# Altium schematic symbol library Amplifiers.SchLib: 86 symbols (part 1 of 2)
Pins are listed as number, name and electrical type; pins without a type are passive.

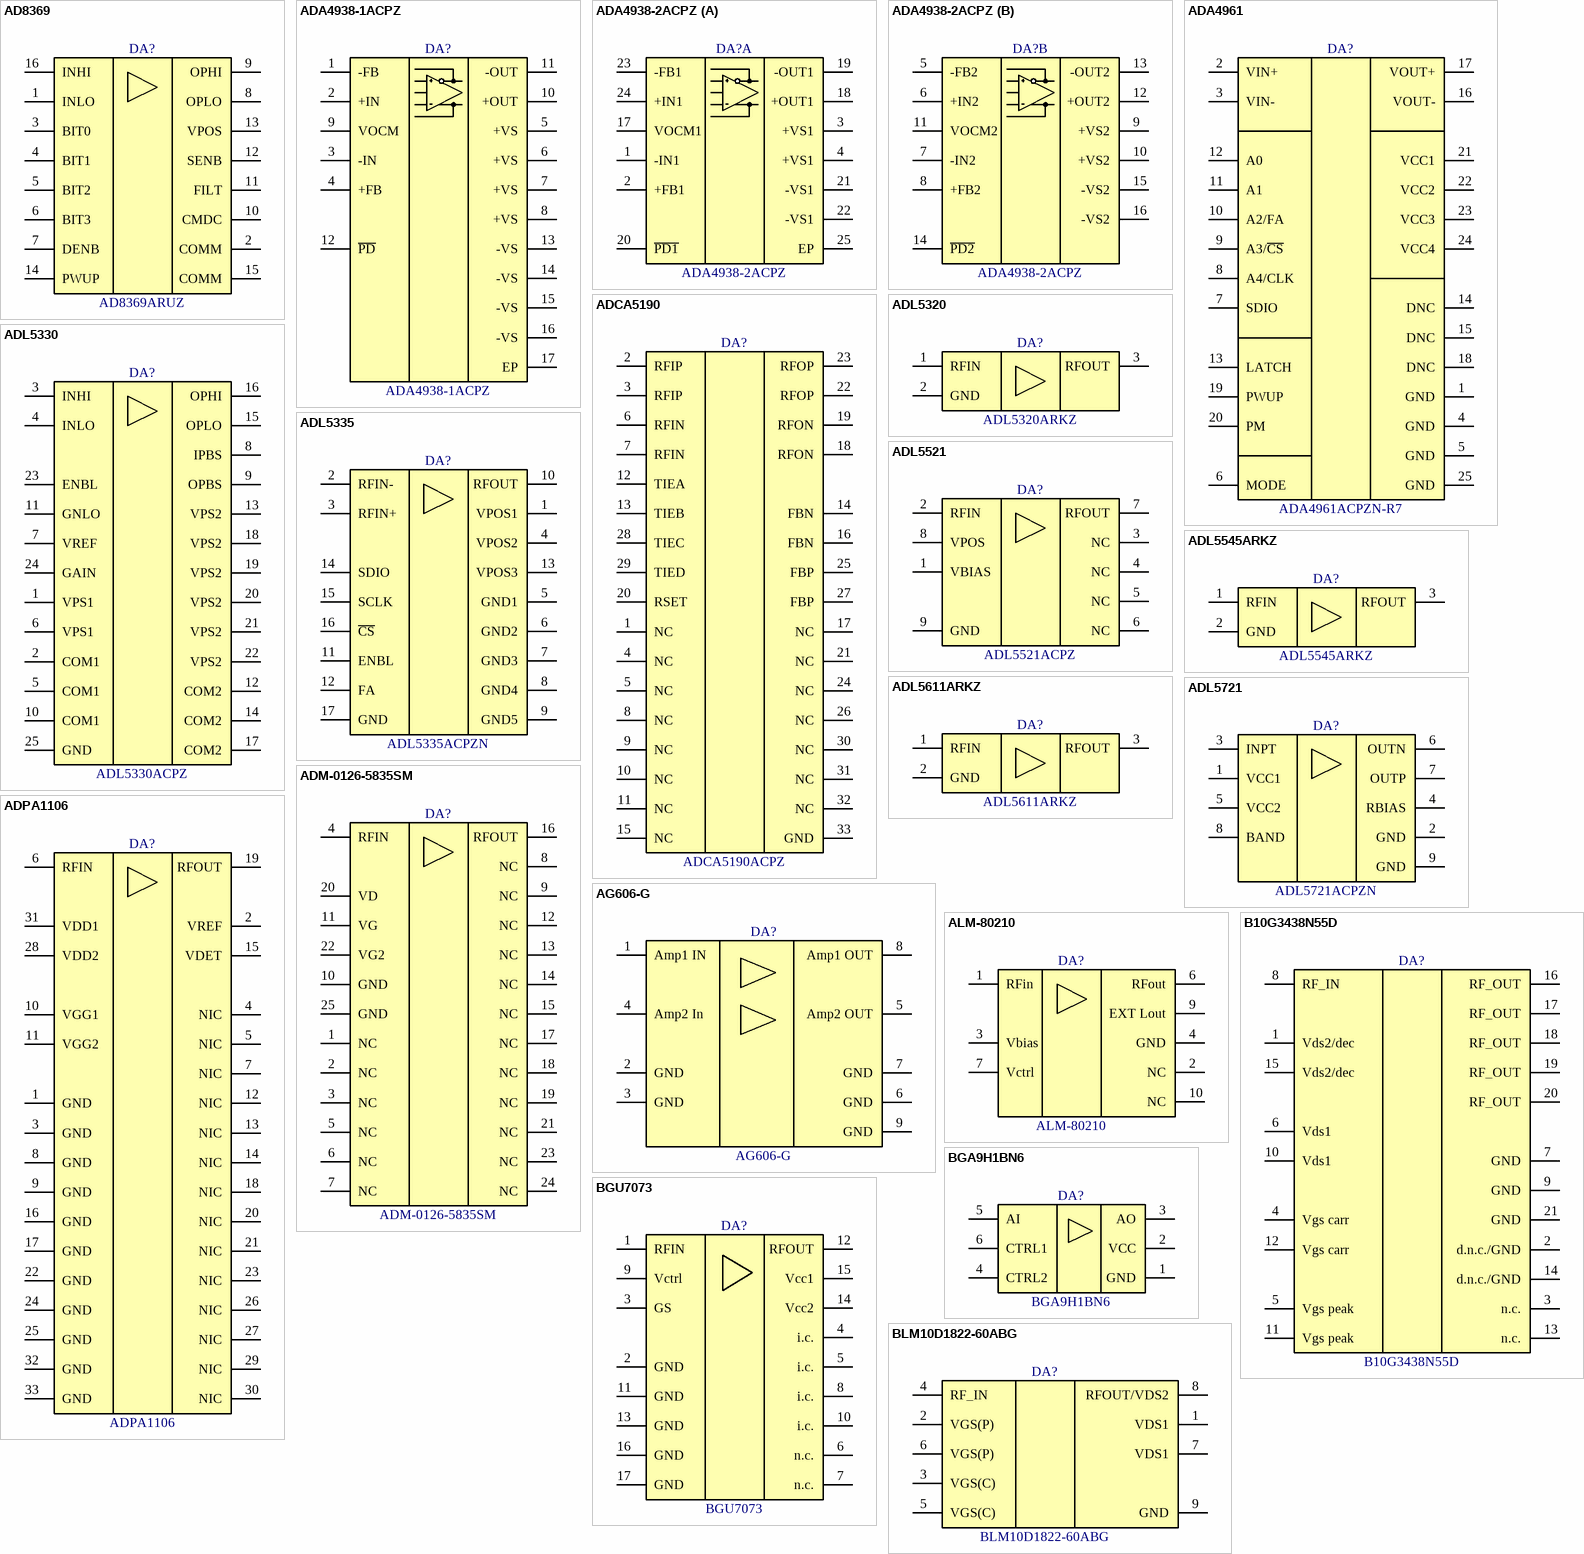
[diagram p0: symbols AD8369 to BLM10D1822-60ABG]

## AD8369
designator DA?, comment AD8369ARUZ
45 dB Digitally Controlled VGA LF to 600 MHz; Manufacturer: Analog Devices; PartNumber: AD8369ARUZ; ComponentLink1Description: Product Page; ComponentLink1URL: https://www.analog.com/en/products/ad8369.html; ComponentLink2Description: DataSheet; ComponentLink2URL: https://www.analog.com/media/en/technical-documentation/data-sheets/AD8369.pdf
footprint SOP16P65_500X640X120L60X24N (Small Outline Pkg (SOP), 0.65 mm pitch; 16 pin, 5.00 mm L X 4.40 mm W X 1.20 mm H body)
pins: 1 INLO, 2 COMM, 3 BIT0, 4 BIT1, 5 BIT2, 6 BIT3, 7 DENB, 8 OPLO, 9 OPHI, 10 CMDC, 11 FILT, 12 SENB, 13 VPOS, 14 PWUP, 15 COMM, 16 INHI

## ADA4938-1ACPZ
designator DA?
Ultralow Distortion Differential ADC Driver, 1 Channel; Manufacturer: Analog Devices; PartNumber: ADA4938-1ACPZ; ComponentLink1Description: Product Page; ComponentLink1URL: https://www.analog.com/en/products/ada4938-1.html; ComponentLink2Description: DataSheet; ComponentLink2URL: https://www.analog.com/media/en/technical-documentation/data-sheets/ADA4938-1_4938-2.pdf
footprint QFN17P50_300X300X80L40X25T145N (Quad Flat No-Lead (QFN with Tab), 0.50 mm pitch; square, 4 pin X 4 pin, 3.00 mm L X 3.00 mm W X 0.80 mm H body)
pins: 1 -FB, 2 +IN, 3 -IN, 4 +FB, 5 +VS, 6 +VS, 7 +VS, 8 +VS, 9 VOCM, 10 +OUT, 11 -OUT, 12 ~{PD}, 13 -VS, 14 -VS, 15 -VS, 16 -VS, 17 EP

## ADA4938-2ACPZ
designator DA?
Ultralow Distortion Differential ADC Driver, 2 Channel; Manufacturer: Analog Devices; PartNumber: ADA4938-2ACPZ; ComponentLink1Description: Product Page; ComponentLink1URL: https://www.analog.com/en/products/ada4938-2.html; ComponentLink2Description: DataSheet; ComponentLink2URL: https://www.analog.com/media/en/technical-documentation/data-sheets/ADA4938-1_4938-2.pdf
footprint QFN25P50_400X400X80L40X25T210N (Quad Flat No-Lead (QFN with Tab), 0.50 mm pitch; square, 6 pin X 6 pin, 4.00 mm L X 4.00 mm W X 0.80 mm H body)
part A pins: 1 -IN1, 2 +FB1, 3 +VS1, 4 +VS1, 17 VOCM1, 18 +OUT1, 19 -OUT1, 20 ~{PD1}, 21 -VS1, 22 -VS1, 23 -FB1, 24 +IN1, 25 EP
part B pins: 5 -FB2, 6 +IN2, 7 -IN2, 8 +FB2, 9 +VS2, 10 +VS2, 11 VOCM2, 12 +OUT2, 13 -OUT2, 14 ~{PD2}, 15 -VS2, 16 -VS2

## ADA4961
designator DA?, comment ADA4961ACPZN-R7
Low Distortion, 3.2 GHz, RF DGA; Manufacturer: Analog Devices; PartNumber: ADA4961ACPZN-R7; ComponentLink1Description: Product Page; ComponentLink1URL: https://www.analog.com/en/products/ada4961.html; ComponentLink2Description: DataSheet; ComponentLink2URL: https://www.analog.com/media/en/technical-documentation/data-sheets/ADA4961.pdf
footprint QFN25P50_400X400X80L40X24T255N (Quad Flat No-Lead (QFN with Tab), 0.50 mm pitch; square, 6 pin X 6 pin, 4.00 mm L X 4.00 mm W X 0.80 mm H body)
pins: 1 GND, 2 VIN+, 3 VIN-, 4 GND, 5 GND, 6 MODE, 7 SDIO, 8 A4/CLK, 9 A3/~{CS}, 10 A2/FA, 11 A1, 12 A0, 13 LATCH, 14 DNC, 15 DNC, 16 VOUT-, 17 VOUT+, 18 DNC, 19 PWUP, 20 PM, 21 VCC1, 22 VCC2, 23 VCC3, 24 VCC4, 25 GND

## ADCA5190
designator DA?, comment ADCA5190ACPZ
5 MHz to 1800 MHz Broadband CATV Amplifier; Manufacturer: Analog Devices; PartNumber: ADCA5190ACPZ; ComponentLink1Description: Product Page; ComponentLink1URL: https://www.analog.com/en/products/adca5190.html; ComponentLink2Description: DataSheet; ComponentLink2URL: https://www.analog.com/media/en/technical-documentation/data-sheets/adca5190.pdf
footprint QFN50P500X500X80_HS-33N (QFN, 32-Leads, Body 5.00x5.00mm, Pitch 0.50mm, Thermal Pad 3.65x3.65mm, IPC Medium Density)
pins: 1 NC, 2 RFIP, 3 RFIP, 4 NC, 5 NC, 6 RFIN, 7 RFIN, 8 NC, 9 NC, 10 NC, 11 NC, 12 TIEA, 13 TIEB, 14 FBN, 15 NC, 16 FBN, 17 NC, 18 RFON, 19 RFON, 20 RSET, 21 NC, 22 RFOP, 23 RFOP, 24 NC, 25 FBP, 26 NC, 27 FBP, 28 TIEC, 29 TIED, 30 NC, 31 NC, 32 NC, 33 GND

## ADL5320
designator DA?, comment ADL5320ARKZ
400 MHz to 2700 MHz ¼ Watt RF Driver Amplifier; Manufacturer: Analog Devices; PartNumber: ADL5320ARKZ; ComponentLink1Description: Product Page; ComponentLink1URL: https://www.analog.com/en/products/adl5320.html; ComponentLink2Description: DataSheet; ComponentLink2URL: https://www.analog.com/media/en/technical-documentation/data-sheets/ADL5320.pdf
footprint SOT89-150P340X160-3N (SOT89, 3-Leads, Body 4.50x2.45mm, Pitch 1.50mm, Lead Span 3.4mm, IPC Medium Density)
pins: 1 RFIN, 2 GND, 3 RFOUT

## ADL5330
designator DA?, comment ADL5330ACPZ
10 MHz to 3 GHz VGA with 60 dB Gain Control Range; Manufacturer: Analog Devices; PartNumber: ADL5330ACPZ; ComponentLink1Description: Product Page; ComponentLink1URL: https://www.analog.com/en/products/adl5330.html; ComponentLink2Description: DataSheet; ComponentLink2URL: https://www.analog.com/media/en/technical-documentation/data-sheets/ADL5330.pdf
footprint ADL5330 (AD 24-Lead Lead Frame Chip Scale Package  [LFCSP_VQ] 4 mm ? 4 mm Body, Very Thin Quad  (CP-24-2))
pins: 1 VPS1, 2 COM1, 3 INHI, 4 INLO, 5 COM1, 6 VPS1, 7 VREF, 8 IPBS, 9 OPBS, 10 COM1, 11 GNLO, 12 COM2, 13 VPS2, 14 COM2, 15 OPLO, 16 OPHI, 17 COM2, 18 VPS2, 19 VPS2, 20 VPS2, 21 VPS2, 22 VPS2, 23 ENBL, 24 GAIN, 25 GND

## ADL5335
designator DA?, comment ADL5335ACPZN
700 MHz to 4200 MHz, Tx DGA; Manufacturer: Analog Devices; PartNumber: ADL5335ACPZN; ComponentLink1Description: Product Page; ComponentLink1URL: https://www.analog.com/en/products/adl5335.html; ComponentLink2Description: DataSheet; ComponentLink2URL: https://www.analog.com/media/en/technical-documentation/data-sheets/adl5335.pdf
footprint QFN17P65_400X400X80L40X28T234N (Quad Flat No-Lead (QFN with Tab), 0.65 mm pitch; square, 4 pin X 4 pin, 4.00 mm L X 4.00 mm W X 0.80 mm H body)
pins: 1 VPOS1, 2 RFIN-, 3 RFIN+, 4 VPOS2, 5 GND1, 6 GND2, 7 GND3, 8 GND4, 9 GND5, 10 RFOUT, 11 ENBL, 12 FA, 13 VPOS3, 14 SDIO, 15 SCLK, 16 ~{CS}, 17 GND

## ADL5521
designator DA?, comment ADL5521ACPZ
400 MHz to 4000 MHz Low Noise Amplifier; Manufacturer: Analog Devices; PartNumber: ADL5521ACPZ; ComponentLink1Description: Product Page; ComponentLink1URL: https://www.analog.com/en/products/adl5521.html; ComponentLink2Description: DataSheet; ComponentLink2URL: https://www.analog.com/media/en/technical-documentation/data-sheets/ADL5521.pdf
footprint SON9P50_300X300X90L40X24T174X145N (Small Outline No-Lead (SON with Tab), 0.50 mm pitch; 8 pin, 3.00 mm L X 3.00 mm W X 0.90 mm H body)
pins: 1 VBIAS, 2 RFIN, 3 NC, 4 NC, 5 NC, 6 NC, 7 RFOUT, 8 VPOS, 9 GND

## ADL5545ARKZ
designator DA?
30 MHz to 6 GHz RF/IF Gain Block; Manufacturer: Analog Devices; PartNumber: ADL5545ARKZ; ComponentLink1Description: Product Page; ComponentLink1URL: https://www.analog.com/en/products/adl5545.html; ComponentLink2Description: DataSheet; ComponentLink2URL: https://www.analog.com/media/en/technical-documentation/data-sheets/ADL5545.PDF
footprint SOT89-150P342X160-3N (SOT89, 3-Leads, Body 4,50x2,45mm, Pitch 1,50mm, Lead Span 3,4mm, IPC Medium Density)
pins: 1 RFIN, 2 GND, 3 RFOUT

## ADL5611ARKZ
designator DA?
30 MHz to 6 GHz RF/IF Gain Block; Manufacturer: Analog Devices; PartNumber: ADL5611ARKZ; ComponentLink1Description: Product Page; ComponentLink1URL: https://www.analog.com/en/products/adl5611.html; ComponentLink2Description: DataSheet; ComponentLink2URL: https://www.analog.com/media/en/technical-documentation/data-sheets/ADL5611.pdf
footprint SOT89-150P342X160-3N (SOT89, 3-Leads, Body 4,50x2,45mm, Pitch 1,50mm, Lead Span 3,4mm, IPC Medium Density)
pins: 1 RFIN, 2 GND, 3 RFOUT

## ADL5721
designator DA?, comment ADL5721ACPZN
5.9 GHz to 8.5 GHz, Low Noise Amplifier; Manufacturer: Analog Devices; PartNumber: ADL5721ACPZN; ComponentLink1Description: Product Page; ComponentLink1URL: https://www.analog.com/en/products/adl5721.html; ComponentLink2Description: DataSheet; ComponentLink2URL: https://www.analog.com/media/en/technical-documentation/data-sheets/ADL5721.pdf
footprint SON9P50_200X200X60L35X25T160X100N (Small Outline No-Lead (SON with Tab), 0.50 mm pitch; 8 pin, 2.00 mm L X 2.00 mm W X 0.60 mm H body)
pins: 1 VCC1, 2 GND, 3 INPT, 4 RBIAS, 5 VCC2, 6 OUTN, 7 OUTP, 8 BAND, 9 GND

## ADM-0126-5835SM
designator DA?
Broadband distributed amplifier 0.7 to 26.5 GHz; Manufacturer: Broadcom; PartNumber: ADM-0126-5835SM
footprint PQFN25P50_390X390X90L32X30T250N (Pullback Quad Flat No-Lead (PQFN with Tab), 0.50 mm pitch; square, 6 pin X 6 pin, 3.90 mm L X 3.90 mm W X 0.90 mm H body)
pins: 1 NC, 2 NC, 3 NC, 4 RFIN, 5 NC, 6 NC, 7 NC, 8 NC, 9 NC, 10 GND, 11 VG, 12 NC, 13 NC, 14 NC, 15 NC, 16 RFOUT, 17 NC, 18 NC, 19 NC, 20 VD, 21 NC, 22 VG2, 23 NC, 24 NC, 25 GND

## ADPA1106
designator DA?
46 dBm (40 W), 2.7 GHz to 3.5 GHz, GaN Power Amplifier; Manufacturer: Analog Devices; PartNumber: ADPA1106; ComponentLink1Description: Product Page; ComponentLink1URL: https://www.analog.com/en/products/adpa1106.html; ComponentLink2Description: DataSheet; ComponentLink2URL: https://www.analog.com/media/en/technical-documentation/data-sheets/adpa1106.pdf
footprint QFN50P500X500X135_HS-33N (QFN, 32-Leads, Body 5.00x5.00mm, Pitch 0.50mm, Thermal Pad 3.10x3.10mm, IPC Medium Density)
pins: 1 GND, 2 VREF, 3 GND, 4 NIC, 5 NIC, 6 RFIN, 7 NIC, 8 GND, 9 GND, 10 VGG1, 11 VGG2, 12 NIC, 13 NIC, 14 NIC, 15 VDET, 16 GND, 17 GND, 18 NIC, 19 RFOUT, 20 NIC, 21 NIC, 22 GND, 23 NIC, 24 GND, 25 GND, 26 NIC, 27 NIC, 28 VDD2, 29 NIC, 30 NIC, 31 VDD1, 32 GND, 33 GND

## AG606-G
designator DA?
50 - 1000 MHz Dual HBT Push-Pull CATV Amplifier; Manufacturer: Qorvo; PartNumber: AG606-G; ComponentLink1Description: Product Page; ComponentLink1URL: https://www.qorvo.com/products/p/AG606-G; ComponentLink2Description: DataSheet; ComponentLink2URL: https://www.qorvo.com/products/d/da003341
footprint AG606-G (SOP, 8-Leads, Body 4.90x3.90mm, Pitch 1.27mm, Thermal Pad 3.30x2.67mm, Modified AG606-G)
pins: 1 Amp1 IN, 2 GND, 3 GND, 4 Amp2 In, 5 Amp2 OUT, 6 GND, 7 GND, 8 Amp1 OUT, 9 GND

## ALM-80210
designator DA?
0.25W Analog Variable Gain Amplifier; Manufacturer: Broadcom; PartNumber: ALM-80210
footprint ALM-80210 (AVAGO ALM-80210)
pins: 1 RFin, 2 NC, 3 Vbias, 4 GND, 6 RFout, 7 Vctrl, 9 EXT Lout, 10 NC

## B10G3438N55D
designator DA?
LDMOS 3-stage integrated Doherty MMIC; Manufacturer: Ampleon; PartNumber: B10G3438N55D; ComponentLink1Description: Product Page; ComponentLink1URL: https://www.ampleon.com/products/mobile-broadband/3.3-4.2-ghz-transistors/B10G3438N55D.html; ComponentLink2Description: DataSheet; ComponentLink2URL: https://www.ampleon.com/documents/data-sheet/B10G3438N55D.pdf
footprint QFN115P800X800X220_HS-21N (QFN, 20-Leads, Body 8.00x8.00mm, Pitch 1.15mm, Thermal Pad 4.62x4.62mm, IPC Medium Density)
pins: 1 Vds2/dec, 2 d.n.c./GND, 3 n.c., 4 Vgs carr, 5 Vgs peak, 6 Vds1, 7 GND, 8 RF_IN, 9 GND, 10 Vds1, 11 Vgs peak, 12 Vgs carr, 13 n.c., 14 d.n.c./GND, 15 Vds2/dec, 16 RF_OUT, 17 RF_OUT, 18 RF_OUT, 19 RF_OUT, 20 RF_OUT, 21 GND

## BGA9H1BN6
designator DA?
Highband High Perfomance LNA with Power-Save-Mode; Manufacturer: Infineon; PartNumber: BGA9H1BN6; ComponentLink1Description: Product Page; ComponentLink1URL: https://www.infineon.com/cms/en/product/rf/low-noise-amplifier-lna-ics/lte-3g-lnas/bga9h1bn6/; ComponentLink2Description: DataSheet; ComponentLink2URL: https://www.infineon.com/dgdl/Infineon-BGA9H1BN6-DataSheet-v02_00-EN.pdf?fileId=8ac78c8c7cdc391c017ceabfc63e0e28
footprint PG-TSNP-6-10 (Infineon PG-TSNP-6-10 Package Outline (0.7mm x 1.1mm x 0.37mm))
pins: 1 GND, 2 VCC, 3 AO, 4 CTRL2, 5 AI, 6 CTRL1

## BGU7073
designator DA?
Analog controlled high linearity low noise variable gain / amplifier; Manufacturer: NXP; PartNumber: BGU7073; ComponentLink1Description: Product Page; ComponentLink1URL: https://www.nxp.com/part/BGU7073#/; ComponentLink2Description: DataSheet; ComponentLink2URL: https://www.nxp.com/docs/en/data-sheet/BGU7073.pdf
footprint QFN142P800X800X140_HS-17N (QFN, 16-Leads, Body 8.00x8.00mm, Pitch 1.42mm, Thermal Pad 5.80x5.80mm, IPC Medium Density)
pins: 1 RFIN, 2 GND, 3 GS, 4 i.c., 5 i.c., 6 n.c., 7 n.c., 8 i.c., 9 Vctrl, 10 i.c., 11 GND, 12 RFOUT, 13 GND, 14 Vcc2, 15 Vcc1, 16 GND, 17 GND

## BLM10D1822-60ABG
designator DA?
LDMOS 2-stage integrated Doherty MMIC 1800 MHz to 2200 MHz; Manufacturer: Ampleon; PartNumber: BLM10D1822-60ABG; ComponentLink1Description: Product Page; ComponentLink1URL: https://www.ampleon.com/products/mobile-broadband/1.4-2.2-ghz-transistors/BLM10D1822-60ABG.html; ComponentLink2Description: DataSheet; ComponentLink2URL: https://www.ampleon.com/documents/data-sheet/BLM10D1822-60ABG.pdf
footprint OMP-400-8G-1 (AMPLEON OMP-400-8G-1 Gull Wing 10.3X10.3X4.0mm)
pins: 1 VDS1, 2 VGS(P), 3 VGS(C), 4 RF_IN, 5 VGS(C), 6 VGS(P), 7 VDS1, 8 RFOUT/VDS2, 9 GND

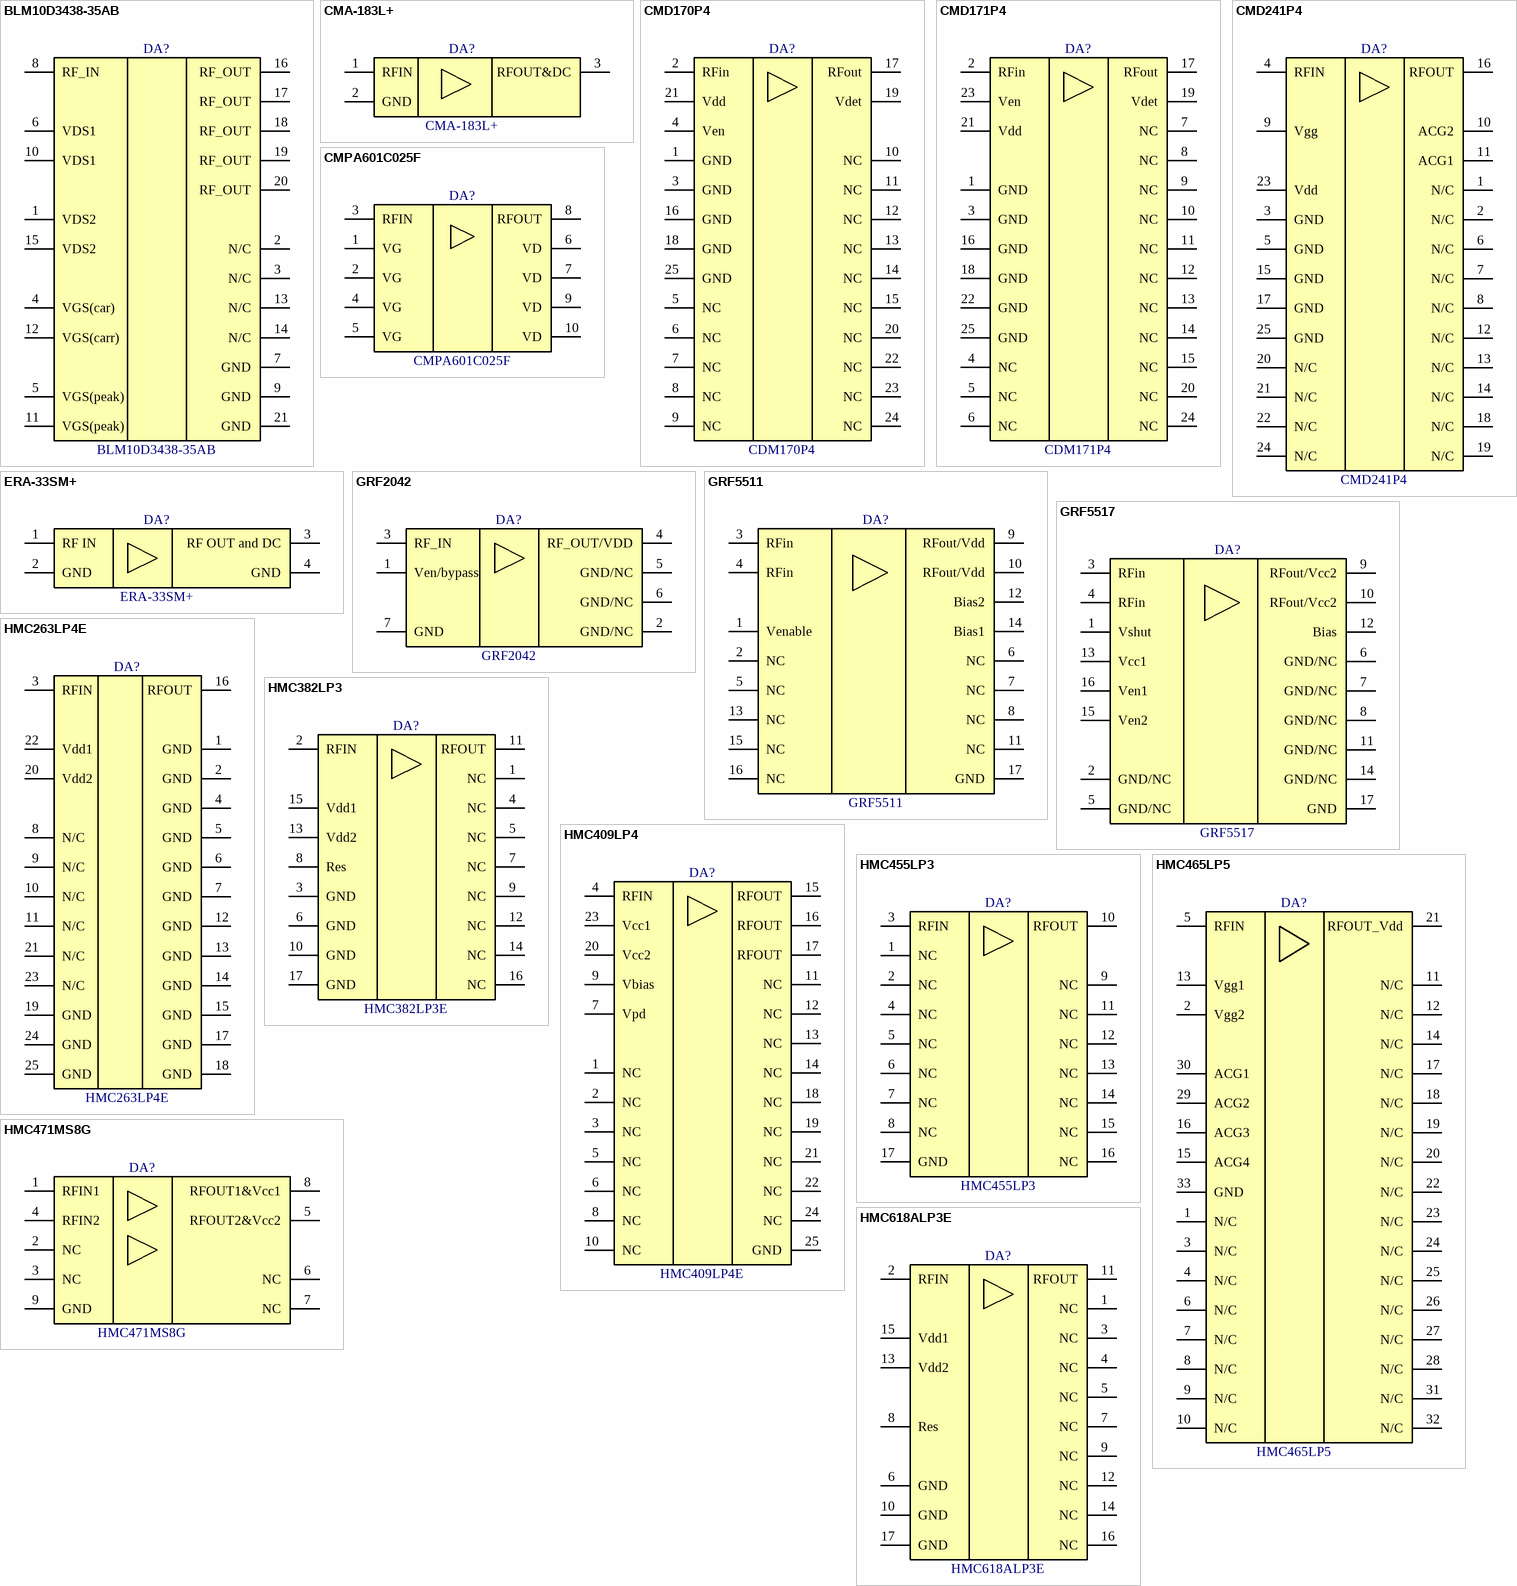
[diagram p1: symbols BLM10D3438-35AB to HMC618ALP3E]

## BLM10D3438-35AB
designator DA?
LDMOS 3-stage integrated Doherty MMIC; Manufacturer: Ampleon; PartNumber: BLM10D3438-35AB; ComponentLink1Description: Product Page; ComponentLink1URL: https://www.ampleon.com/products/mobile-broadband/3.3-4.2-ghz-transistors/BLM10D3438-35AB.html; ComponentLink2Description: DataSheet; ComponentLink2URL: https://www.ampleon.com/documents/data-sheet/BLM10D3438-35AB.pdf
footprint QFN115P800X800X220_HS-21N (QFN, 20-Leads, Body 8.00x8.00mm, Pitch 1.15mm, Thermal Pad 4.62x4.62mm, IPC Medium Density)
pins: 1 VDS2, 2 N/C, 3 N/C, 4 VGS(car), 5 VGS(peak), 6 VDS1, 7 GND, 8 RF_IN, 9 GND, 10 VDS1, 11 VGS(peak), 12 VGS(carr), 13 N/C, 14 N/C, 15 VDS2, 16 RF_OUT, 17 RF_OUT, 18 RF_OUT, 19 RF_OUT, 20 RF_OUT, 21 GND

## CMA-183L+
designator DA?
Low Current, Wideband, Ceramic Monolithic Amplifier 50Ω DC to 18 GHz; Manufacturer: Mini-Circuits; PartNumber: CMA-183L+; ComponentLink1Description: Product Page; ComponentLink1URL: https://www.minicircuits.com/WebStore/dashboard.html?model=CMA-183L%2B; ComponentLink2Description: DataSheet; ComponentLink2URL: https://www.minicircuits.com/WebStore/dashboardPdf?model=CMA-183L%2B
footprint LZ1737 (Mini-Circuits case LZ1737)
pins: 1 RFIN, 2 GND, 3 RFOUT&DC

## CMD170P4
designator DA?, comment CDM170P4
7.5-9 GHz Driver Amplifier; Manufacturer: Qorvo; PartNumber: CDM170P4; ComponentLink1Description: Product Page; ComponentLink1URL: https://www.qorvo.com/products/p/CMD170P4; ComponentLink2Description: DataSheet; ComponentLink2URL: https://www.qorvo.com/products/d/da007380
footprint QFN25P50_400X400X100L40X24T245N (Quad Flat No-Lead (QFN with Tab), 0.50 mm pitch; square, 6 pin X 6 pin, 4.00 mm L X 4.00 mm W X 1.00 mm H body)
pins: 1 GND, 2 RFin, 3 GND, 4 Ven, 5 NC, 6 NC, 7 NC, 8 NC, 9 NC, 10 NC, 11 NC, 12 NC, 13 NC, 14 NC, 15 NC, 16 GND, 17 RFout, 18 GND, 19 Vdet, 20 NC, 21 Vdd, 22 NC, 23 NC, 24 NC, 25 GND

## CMD171P4
designator DA?, comment CDM171P4
9.5-11 GHz Driver Amplifier; Manufacturer: Qorvo; PartNumber: CDM171P4
footprint QFN25P50_400X400X100L40X24T245N (Quad Flat No-Lead (QFN with Tab), 0.50 mm pitch; square, 6 pin X 6 pin, 4.00 mm L X 4.00 mm W X 1.00 mm H body)
pins: 1 GND, 2 RFin, 3 GND, 4 NC, 5 NC, 6 NC, 7 NC, 8 NC, 9 NC, 10 NC, 11 NC, 12 NC, 13 NC, 14 NC, 15 NC, 16 GND, 17 RFout, 18 GND, 19 Vdet, 20 NC, 21 Vdd, 22 GND, 23 Ven, 24 NC, 25 GND

## CMD241P4
designator DA?
2 - 22 GHz (C, X, Ku and K Band) Distributed Amplifier; Manufacturer: Qorvo; PartNumber: CMD241P4; ComponentLink1Description: Product Page; ComponentLink1URL: https://www.qorvo.com/products/p/CMD241P4; ComponentLink2Description: DataSheet; ComponentLink2URL: https://www.qorvo.com/products/d/da007534
footprint QFN25P50_400X400X100L40X24T245N (Quad Flat No-Lead (QFN with Tab), 0.50 mm pitch; square, 6 pin X 6 pin, 4.00 mm L X 4.00 mm W X 1.00 mm H body)
pins: 1 N/C, 2 N/C, 3 GND, 4 RFIN, 5 GND, 6 N/C, 7 N/C, 8 N/C, 9 Vgg, 10 ACG2, 11 ACG1, 12 N/C, 13 N/C, 14 N/C, 15 GND, 16 RFOUT, 17 GND, 18 N/C, 19 N/C, 20 N/C, 21 N/C, 22 N/C, 23 Vdd, 24 N/C, 25 GND

## CMPA601C025F
designator DA?
GaN High Power Amplifier, 40 W 6 - 12 GHz; Manufacturer: MACOM; PartNumber: CMPA601C025F; ComponentLink1Description: ProductPage; ComponentLink1URL: https://www.macom.com/products/product-detail/CMPA601C025; ComponentLink2Description: DataSheet; ComponentLink2URL: https://cdn.macom.com/datasheets/CMPA601C025F.pdf
footprint CMPA601C025F (Flange)
pins: 1 VG, 2 VG, 3 RFIN, 4 VG, 5 VG, 6 VD, 7 VD, 8 RFOUT, 9 VD, 10 VD

## ERA-33SM+
designator DA?
Surface Mount Monolithic Amplifier DC-3 GHz; Manufacturer: Mini-Circuits; PartNumber: ERA-33SM+; ComponentLink1Description: Product Page; ComponentLink1URL: https://www.minicircuits.com/WebStore/dashboard.html?model=ERA-33SM%2B; ComponentLink2Description: DataSheet; ComponentLink2URL: https://www.minicircuits.com/WebStore/dashboardPdf?model=ERA-33SM%2B
footprint WW107 (Mini-Circuits case WW107)
pins: 1 RF IN, 2 GND, 3 RF OUT and DC, 4 GND

## GRF2042
designator DA?
LINEAR GAIN BLOCK WITH BYPASS 0.15 to 6 GHz; Manufacturer: Guerilla RF; PartNumber: GRF2042; ComponentLink1Description: Product Page; ComponentLink1URL: https://www.guerrilla-rf.com/products/detail/sku/GRF2042; ComponentLink2Description: DataSheet; ComponentLink2URL: https://www.guerrilla-rf.com/products/DataSheet?sku=2042&file_name=GRF2042DS.pdf
footprint GRF2042 (DFN 6 1.5x1.5mm Guerilla RF)
pins: 1 Ven/bypass, 2 GND/NC, 3 RF_IN, 4 RF_OUT/VDD, 5 GND/NC, 6 GND/NC, 7 GND

## GRF5511
designator DA?
High Linearity Power Amplifier Tuning Range: 0.7 to 6 GHz; Manufacturer: Guerrilla-RF; ComponentLink1Description: Product Page; ComponentLink1URL: https://www.guerrilla-rf.com/products/detail/sku/GRF5511; PartNumber: GRF5511; ComponentLink2Description: DataSheet; ComponentLink2URL: https://www.guerrilla-rf.com/products/DataSheet?sku=5511&file_name=GRF5511DS.pdf
footprint GRF5511 (Guerrilla-RF 3.0 mm QFN-16)
pins: 1 Venable, 2 NC, 3 RFin, 4 RFin, 5 NC, 6 NC, 7 NC, 8 NC, 9 RFout/Vdd, 10 RFout/Vdd, 11 NC, 12 Bias2, 13 NC, 14 Bias1, 15 NC, 16 NC, 17 GND

## GRF5517
designator DA?
High Linearity Power Amplifier Tuning Range: 1.7 to 1.8 GHz; Manufacturer: Guerrilla-RF; ComponentLink1Description: Product Page; ComponentLink1URL: https://www.guerrilla-rf.com/products/detail/sku/GRF5517; PartNumber: GRF5517; ComponentLink2Description: DataSheet; ComponentLink2URL: https://www.guerrilla-rf.com/products/DataSheet?sku=5517&file_name=GRF5517DS.pdf
footprint GRF5517 (Guerrilla-RF 3.0 mm QFN-16)
pins: 1 Vshut, 2 GND/NC, 3 RFin, 4 RFin, 5 GND/NC, 6 GND/NC, 7 GND/NC, 8 GND/NC, 9 RFout/Vcc2, 10 RFout/Vcc2, 11 GND/NC, 12 Bias, 13 Vcc1, 14 GND/NC, 15 Ven2, 16 Ven1, 17 GND

## HMC263LP4E
designator DA?
GaAs MMIC LOW NOISE AMPLIFIER, 24 - 36 GHz; Manufacturer: Analog Devices; ComponentLink1Description: Product Page; ComponentLink1URL: https://www.analog.com/en/products/hmc263lp4e.html; PartNumber: HMC263LP4E; ComponentLink2Description: DataSheet; ComponentLink2URL: https://www.analog.com/media/en/technical-documentation/data-sheets/hmc263.pdf
footprint QFN25P50_400X400X90L40X25T270N (Quad Flat No-Lead (QFN with Tab), 0.50 mm pitch; square, 6 pin X 6 pin, 4.00 mm L X 4.00 mm W X 0.90 mm H body)
pins: 1 GND, 2 GND, 3 RFIN, 4 GND, 5 GND, 6 GND, 7 GND, 8 N/C, 9 N/C, 10 N/C, 11 N/C, 12 GND, 13 GND, 14 GND, 15 GND, 16 RFOUT, 17 GND, 18 GND, 19 GND, 20 Vdd2, 21 N/C, 22 Vdd1, 23 N/C, 24 GND, 25 GND

## HMC382LP3
designator DA?, comment HMC382LP3E
LOW NOISE AMPLIFIER, 1.7 - 2.2 GHz; Manufacturer: Analog Devices; PartNumber: HMC382LP3E; ComponentLink1Description: Product Page; ComponentLink1URL: https://www.analog.com/en/products/hmc382.html; ComponentLink2Description: DataSheet; ComponentLink2URL: https://www.analog.com/media/en/technical-documentation/data-sheets/hmc382.pdf
footprint QFN17P50_300X300X100L40X24T173N (Quad Flat No-Lead (QFN with Tab), 0.50 mm pitch; square, 4 pin X 4 pin, 3.00 mm L X 3.00 mm W X 1.00 mm H body)
pins: 1 NC, 2 RFIN, 3 GND, 4 NC, 5 NC, 6 GND, 7 NC, 8 Res, 9 NC, 10 GND, 11 RFOUT, 12 NC, 13 Vdd2, 14 NC, 15 Vdd1, 16 NC, 17 GND

## HMC409LP4
designator DA?, comment HMC409LP4E
GaAs InGaP HBT 1 WATT POWER AMPLIFIER, 3.3 - 3.8 GHz; Manufacturer: Analog Devices; PartNumber: HMC409LP4E; ComponentLink1Description: Product Page; ComponentLink1URL: https://www.analog.com/en/products/hmc409.html; ComponentLink2Description: DataSheet; ComponentLink2URL: https://www.analog.com/media/en/technical-documentation/data-sheets/hmc409.pdf
footprint QFN25P50_400X400X100L40X24T280N (Quad Flat No-Lead (QFN with Tab), 0.50 mm pitch; square, 6 pin X 6 pin, 4.00 mm L X 4.00 mm W X 1.00 mm H body)
pins: 1 NC, 2 NC, 3 NC, 4 RFIN, 5 NC, 6 NC, 7 Vpd, 8 NC, 9 Vbias, 10 NC, 11 NC, 12 NC, 13 NC, 14 NC, 15 RFOUT, 16 RFOUT, 17 RFOUT, 18 NC, 19 NC, 20 Vcc2, 21 NC, 22 NC, 23 Vcc1, 24 NC, 25 GND

## HMC455LP3
designator DA?
InGaP HBT ½ Watt High IP3 AMPLIFIER, 1.7 - 2.5 GHz; Manufacturer: Analog Devices; PartNumber: HMC455LP3; ComponentLink1Description: Product Page; ComponentLink1URL: https://www.analog.com/en/products/hmc455.html; ComponentLink2Description: DataSheet; ComponentLink2URL: https://www.analog.com/media/en/technical-documentation/data-sheets/hmc455.pdf
footprint QFN17P50_300X300X100L40X24T173N (Quad Flat No-Lead (QFN with Tab), 0.50 mm pitch; square, 4 pin X 4 pin, 3.00 mm L X 3.00 mm W X 1.00 mm H body)
pins: 1 NC, 2 NC, 3 RFIN, 4 NC, 5 NC, 6 NC, 7 NC, 8 NC, 9 NC, 10 RFOUT, 11 NC, 12 NC, 13 NC, 14 NC, 15 NC, 16 NC, 17 GND

## HMC465LP5
designator DA?
GaAs PHEMT MMIC MODULATOR DRIVER  AMPLIFIER, DC - 20 GHz; Manufacturer: Analog Devices; PartNumber: HMC465LP5; ComponentLink1Description: Product Page; ComponentLink1URL: https://www.analog.com/en/products/hmc465lp5.html; ComponentLink2Description: DataSheet; ComponentLink2URL: https://www.analog.com/media/en/technical-documentation/data-sheets/hmc465.pdf
footprint QFN33P50_500X500X90L40X25T370N (Quad Flat No-Lead (QFN with Tab), 0.50 mm pitch; square, 8 pin X 8 pin, 5.00 mm L X 5.00 mm W X 0.90 mm H body)
pins: 1 N/C, 2 Vgg2, 3 N/C, 4 N/C, 5 RFIN, 6 N/C, 7 N/C, 8 N/C, 9 N/C, 10 N/C, 11 N/C, 12 N/C, 13 Vgg1, 14 N/C, 15 ACG4, 16 ACG3, 17 N/C, 18 N/C, 19 N/C, 20 N/C, 21 RFOUT_Vdd, 22 N/C, 23 N/C, 24 N/C, 25 N/C, 26 N/C, 27 N/C, 28 N/C, 29 ACG2, 30 ACG1, 31 N/C, 32 N/C, 33 GND

## HMC471MS8G
designator DA?
SiGe HBT DUAL CHANNEL GAIN BLOCK MMIC AMPLIFIER, DC - 5 GHz; Manufacturer: Analog Devices; PartNumber: HMC471MS8G; ComponentLink1Description: Product Page; ComponentLink1URL: https://www.analog.com/en/products/hmc471.html; ComponentLink2Description: DataSheet; ComponentLink2URL: https://www.analog.com/media/en/technical-documentation/data-sheets/hmc471.pdf
footprint SOP9P65_300X488X110L60X30T241X178N (Small Outline Pkg (SOP with Tab), 0.65 mm pitch; 8 pin, 3.00 mm L X 3.00 mm W X 1.10 mm H body)
pins: 1 RFIN1, 2 NC, 3 NC, 4 RFIN2, 5 RFOUT2&Vcc2, 6 NC, 7 NC, 8 RFOUT1&Vcc1, 9 GND

## HMC618ALP3E
designator DA?
GaAs SMT pHEMT LOW NOISE AMPLIFIER, 1.2 - 2.2 GHz; Manufacturer: Analog Devices; PartNumber: HMC618ALP3E; ComponentLink1Description: Product Page; ComponentLink1URL: https://www.analog.com/en/products/hmc618a.html; ComponentLink2Description: DataSheet; ComponentLink2URL: https://www.analog.com/media/en/technical-documentation/data-sheets/hmc618a.pdf
footprint QFN17P50_300X300X100L40X24T173N (Quad Flat No-Lead (QFN with Tab), 0.50 mm pitch; square, 4 pin X 4 pin, 3.00 mm L X 3.00 mm W X 1.00 mm H body)
pins: 1 NC, 2 RFIN, 3 NC, 4 NC, 5 NC, 6 GND, 7 NC, 8 Res, 9 NC, 10 GND, 11 RFOUT, 12 NC, 13 Vdd2, 14 NC, 15 Vdd1, 16 NC, 17 GND

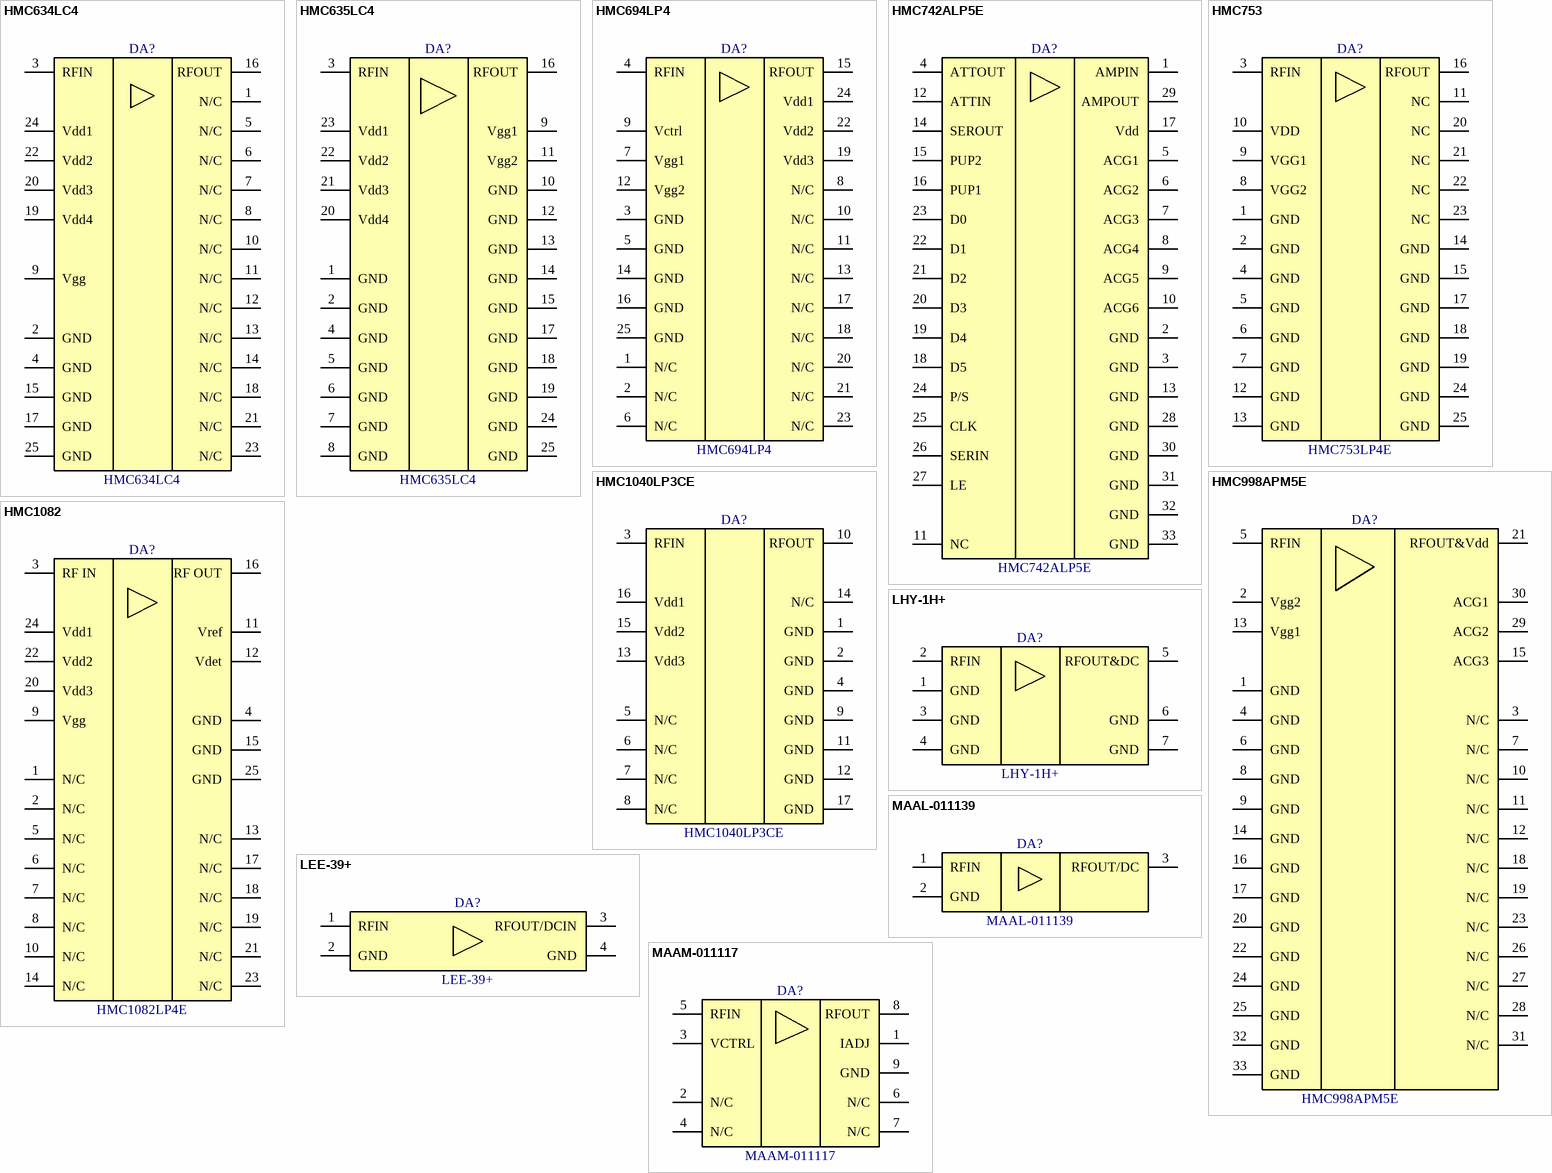
[diagram p2: symbols HMC634LC4 to MAAM-011117]

## HMC634LC4
designator DA?
GaAs PHEMT MMIC DRIVER AMPLIFIER, 5 - 20 GHz; Manufacturer: Analog Devices; PartNumber: HMC634LC4; ComponentLink1Description: Product Page; ComponentLink1URL: https://www.analog.com/en/products/hmc634lc4.html; ComponentLink2Description: DataSheet; ComponentLink2URL: https://www.analog.com/media/en/technical-documentation/data-sheets/hmc634.pdf
footprint QFN25P50_400X400X100L40X24T245N (Quad Flat No-Lead (QFN with Tab), 0.50 mm pitch; square, 6 pin X 6 pin, 4.00 mm L X 4.00 mm W X 1.00 mm H body)
pins: 1 N/C, 2 GND, 3 RFIN, 4 GND, 5 N/C, 6 N/C, 7 N/C, 8 N/C, 9 Vgg, 10 N/C, 11 N/C, 12 N/C, 13 N/C, 14 N/C, 15 GND, 16 RFOUT, 17 GND, 18 N/C, 19 Vdd4, 20 Vdd3, 21 N/C, 22 Vdd2, 23 N/C, 24 Vdd1, 25 GND

## HMC635LC4
designator DA?
GaAs PHEMT MMIC DRIVER AMPLIFIER, 18 - 40 GHz; Manufacturer: Analog Devices; PartNumber: HMC635LC4; ComponentLink1Description: Product Page; ComponentLink1URL: https://www.analog.com/en/products/hmc635lc4.html; ComponentLink2Description: DataSheet; ComponentLink2URL: https://www.analog.com/media/en/technical-documentation/data-sheets/hmc635.pdf
footprint QFN25P50_400X400X100L40X24T260N (Quad Flat No-Lead (QFN with Tab), 0.50 mm pitch; square, 6 pin X 6 pin, 4.00 mm L X 4.00 mm W X 1.00 mm H body)
pins: 1 GND, 2 GND, 3 RFIN, 4 GND, 5 GND, 6 GND, 7 GND, 8 GND, 9 Vgg1, 10 GND, 11 Vgg2, 12 GND, 13 GND, 14 GND, 15 GND, 16 RFOUT, 17 GND, 18 GND, 19 GND, 20 Vdd4, 21 Vdd3, 22 Vdd2, 23 Vdd1, 24 GND, 25 GND

## HMC694LP4
designator DA?
GaAs MMIC ANALOG VARIABLE GAIN AMPLIFIER, 6 - 17 GHz; Manufacturer: Analog Devices; PartNumber: HMC694LP4; ComponentLink1Description: Product Page; ComponentLink1URL: https://www.analog.com/en/products/hmc694lp4.html; ComponentLink2Description: DataSheet; ComponentLink2URL: https://www.analog.com/media/en/technical-documentation/data-sheets/hmc694lp4.pdf
footprint QFN25P50_400X400X100L40X24T280N (Quad Flat No-Lead (QFN with Tab), 0.50 mm pitch; square, 6 pin X 6 pin, 4.00 mm L X 4.00 mm W X 1.00 mm H body)
pins: 1 N/C, 2 N/C, 3 GND, 4 RFIN, 5 GND, 6 N/C, 7 Vgg1, 8 N/C, 9 Vctrl, 10 N/C, 11 N/C, 12 Vgg2, 13 N/C, 14 GND, 15 RFOUT, 16 GND, 17 N/C, 18 N/C, 19 Vdd3, 20 N/C, 21 N/C, 22 Vdd2, 23 N/C, 24 Vdd1, 25 GND

## HMC742ALP5E
designator DA?
0.5 dB LSB GaAs MMIC 6-BIT DIGITAL VARIABLE GAIN AMPLIFIER, 70 MHz - 4 GHz; Manufacturer: Analog Devices; PartNumber: HMC742ALP5E; ComponentLink1Description: Product Page; ComponentLink1URL: https://www.analog.com/en/products/hmc742a.html; ComponentLink2Description: DataSheet; ComponentLink2URL: https://www.analog.com/media/en/technical-documentation/data-sheets/hmc742a.pdf
footprint QFN33P50_500X500X100L40X24T380N (Quad Flat No-Lead (QFN with Tab), 0.50 mm pitch; square, 8 pin X 8 pin, 5.00 mm L X 5.00 mm W X 1.00 mm H body)
pins: 1 AMPIN, 2 GND, 3 GND, 4 ATTOUT, 5 ACG1, 6 ACG2, 7 ACG3, 8 ACG4, 9 ACG5, 10 ACG6, 11 NC, 12 ATTIN, 13 GND, 14 SEROUT, 15 PUP2, 16 PUP1, 17 Vdd, 18 D5, 19 D4, 20 D3, 21 D2, 22 D1, 23 D0, 24 P/S, 25 CLK, 26 SERIN, 27 LE, 28 GND, 29 AMPOUT, 30 GND, 31 GND, 32 GND, 33 GND

## HMC753
designator DA?, comment HMC753LP4E
1 GHz to 11 GHz, GaAs, HEMT, MMIC Low Noise Amplifier; Manufacturer: Analog Devices; PartNumber: HMC753LP4E; ComponentLink1Description: Product Page; ComponentLink1URL: https://www.analog.com/en/products/hmc753.html; ComponentLink2Description: DataSheet; ComponentLink2URL: https://www.analog.com/media/en/technical-documentation/data-sheets/hmc753.pdf
footprint QFN25P50_400X400X95L40X25T270N (Quad Flat No-Lead (QFN with Tab), 0.50 mm pitch; square, 6 pin X 6 pin, 4.00 mm L X 4.00 mm W X 0.95 mm H body)
pins: 1 GND, 2 GND, 3 RFIN, 4 GND, 5 GND, 6 GND, 7 GND, 8 VGG2, 9 VGG1, 10 VDD, 11 NC, 12 GND, 13 GND, 14 GND, 15 GND, 16 RFOUT, 17 GND, 18 GND, 19 GND, 20 NC, 21 NC, 22 NC, 23 NC, 24 GND, 25 GND

## HMC998APM5E
designator DA?
GaAs pHEMT MMIC 2 WATT POWER AMPLIFIER, DC - 22 GHz; Manufacturer: Analog Devices; PartNumber: HMC998APM5E; ComponentLink1Description: Product Page; ComponentLink1URL: https://www.analog.com/en/products/hmc998apm5e.html; ComponentLink2Description: DataSheet; ComponentLink2URL: https://www.analog.com/media/en/technical-documentation/data-sheets/hmc998apm5e.pdf
footprint QFN50P500X500X135_HS-33N (QFN, 32-Leads, Body 5.00x5.00mm, Pitch 0.50mm, Thermal Pad 3.10x3.10mm, IPC Medium Density)
pins: 1 GND, 2 Vgg2, 3 N/C, 4 GND, 5 RFIN, 6 GND, 7 N/C, 8 GND, 9 GND, 10 N/C, 11 N/C, 12 N/C, 13 Vgg1, 14 GND, 15 ACG3, 16 GND, 17 GND, 18 N/C, 19 N/C, 20 GND, 21 RFOUT&Vdd, 22 GND, 23 N/C, 24 GND, 25 GND, 26 N/C, 27 N/C, 28 N/C, 29 ACG2, 30 ACG1, 31 N/C, 32 GND, 33 GND

## HMC1040LP3CE
designator DA?
GaAs pHEMT MMIC LOW NOISE AMPLIFIER, 24 - 43.5 GHz; Manufacturer: Analog Devices; PartNumber: HMC1040LP3CE; ComponentLink1Description: Product Page; ComponentLink1URL: https://www.analog.com/en/products/hmc1040lp3ce.html; ComponentLink2Description: DataSheet; ComponentLink2URL: https://www.analog.com/media/en/technical-documentation/data-sheets/hmc1040.pdf
footprint QFN17P50_300X300X100L40X24T170N (Quad Flat No-Lead (QFN with Tab), 0.50 mm pitch; square, 4 pin X 4 pin, 3.00 mm L X 3.00 mm W X 1.00 mm H body)
pins: 1 GND, 2 GND, 3 RFIN, 4 GND, 5 N/C, 6 N/C, 7 N/C, 8 N/C, 9 GND, 10 RFOUT, 11 GND, 12 GND, 13 Vdd3, 14 N/C, 15 Vdd2, 16 Vdd1, 17 GND

## HMC1082
designator DA?, comment HMC1082LP4E
Power Amplifier 5.5-18 GHz, Gain 22 dB, P1dBout 24 dBm; Manufacturer: Analog Devices; PartNumber: HMC1082LP4E; ComponentLink1Description: Product Page; ComponentLink1URL: https://www.analog.com/en/products/hmc1082.html; ComponentLink2Description: DataSheet; ComponentLink2URL: https://www.analog.com/media/en/technical-documentation/data-sheets/hmc1082.pdf
footprint QFN25P50_400X400X100L40X24T280N (Quad Flat No-Lead (QFN with Tab), 0.50 mm pitch; square, 6 pin X 6 pin, 4.00 mm L X 4.00 mm W X 1.00 mm H body)
pins: 1 N/C, 2 N/C, 3 RF IN, 4 GND, 5 N/C, 6 N/C, 7 N/C, 8 N/C, 9 Vgg, 10 N/C, 11 Vref, 12 Vdet, 13 N/C, 14 N/C, 15 GND, 16 RF OUT, 17 N/C, 18 N/C, 19 N/C, 20 Vdd3, 21 N/C, 22 Vdd2, 23 N/C, 24 Vdd1, 25 GND

## LEE-39+
designator DA?
Monolithic Amplifier DC-8GHz; Manufacturer: Mini-Circuits; PartNumber: LEE-39+; ComponentLink1Description: Product Page; ComponentLink1URL: https://www.minicircuits.com/WebStore/dashboard.html?model=LEE-39%2B; ComponentLink2Description: DataSheet; ComponentLink2URL: https://www.minicircuits.com/WebStore/dashboardPdf?model=LEE-39%2B
footprint FG873 (Mini-Circuits case FG873)
pins: 1 RFIN, 2 GND, 3 RFOUT/DCIN, 4 GND

## LHY-1H+
designator DA?
SMT Linear Amplifier, 50 - 6000 MHz, 50Ω; Manufacturer: Mini-Circuits; PartNumber: LHY-1H+; ComponentLink1Description: Product Page; ComponentLink1URL: https://www.minicircuits.com/WebStore/dashboard.html?model=LHY-1H%2B; ComponentLink2Description: DataSheet; ComponentLink2URL: https://www.minicircuits.com/WebStore/dashboardPdf?model=LHY-1H%2B
footprint MC1630-1 (Mini-Circuits case MC1630-1)
pins: 1 GND, 2 RFIN, 3 GND, 4 GND, 5 RFOUT&DC, 6 GND, 7 GND

## MAAL-011139
designator DA?
Low Noise Amplifier, 5 - 4000 MHz, 75 Ohm, CATV; Manufacturer: MACOM; PartNumber: MAAL-011139; ComponentLink1Description: Product Page; ComponentLink1URL: https://www.macom.com/products/product-detail/MAAL-011139; ComponentLink2Description: DataSheet; ComponentLink2URL: https://cdn.macom.com/datasheets/MAAL-011139.pdf
footprint MAAL-011139 (SOT89, 3-Leads, Body 4,50x2,50mm, Pitch 1,50mm, Lead Span 3,5mm, IPC Medium Density)
pins: 1 RFIN, 2 GND, 3 RFOUT/DC

## MAAM-011117
designator DA?
75 Ω, 5 V RF Amplifier 50 - 2700 MHz; Manufacturer: MACOM; PartNumber: MAAM-011117; ComponentLink1Description: Product Page; ComponentLink1URL: https://www.macom.com/products/product-detail/MAAM-011117; ComponentLink2Description: DataSheet; ComponentLink2URL: https://cdn.macom.com/datasheets/MAAM-011117.pdf
footprint SON50P200X100_HS-9N (SON, 8-Leads, Body 2.00x2.00mm, Pitch 0.50mm, Thermal Pad 1.70x0.79mm, IPC Medium Density)
pins: 1 IADJ, 2 N/C, 3 VCTRL, 4 N/C, 5 RFIN, 6 N/C, 7 N/C, 8 RFOUT, 9 GND

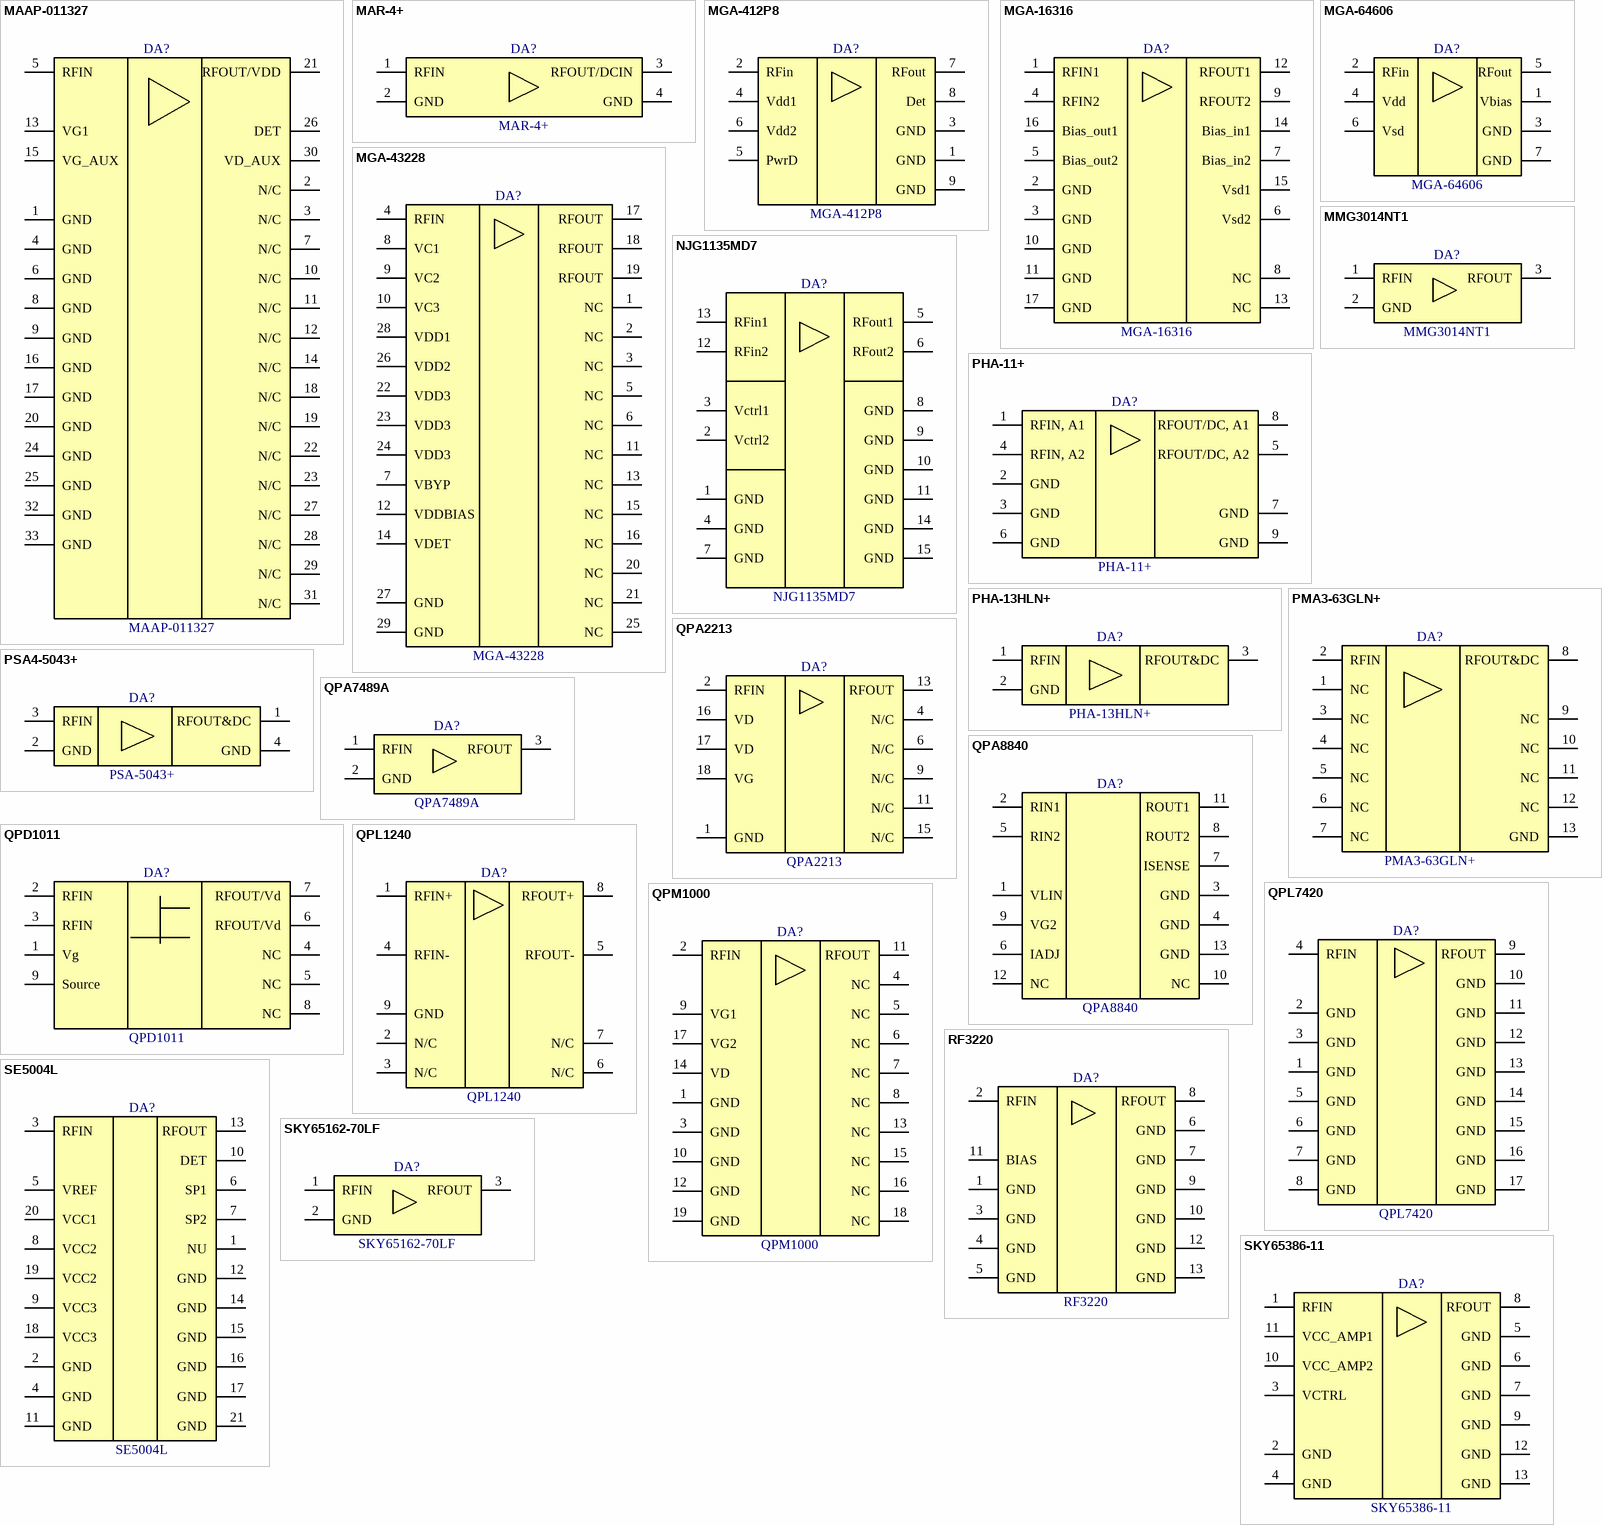
[diagram p3: symbols MAAP-011327 to SKY65386-11]

## MAAP-011327
designator DA?
Power Amplifier, 1 W, 0.001 - 22 GHz; Manufacturer: MACOM; PartNumber: MAAP-011327; ComponentLink1Description: Product Page; ComponentLink1URL: https://www.macom.com/products/product-detail/MAAP-011327; ComponentLink2Description: DataSheet; ComponentLink2URL: https://cdn.macom.com/datasheets/MAAP-011327.pdf
footprint QFN33P50_500X500X120L50X25T300N (Quad Flat No-Lead (QFN with Tab), 0.50 mm pitch; square, 8 pin X 8 pin, 5.00 mm L X 5.00 mm W X 1.20 mm H body)
pins: 1 GND, 2 N/C, 3 N/C, 4 GND, 5 RFIN, 6 GND, 7 N/C, 8 GND, 9 GND, 10 N/C, 11 N/C, 12 N/C, 13 VG1, 14 N/C, 15 VG_AUX, 16 GND, 17 GND, 18 N/C, 19 N/C, 20 GND, 21 RFOUT/VDD, 22 N/C, 23 N/C, 24 GND, 25 GND, 26 DET, 27 N/C, 28 N/C, 29 N/C, 30 VD_AUX, 31 N/C, 32 GND, 33 GND

## MAR-4+
designator DA?
Murata Amplifier DC-1 GHz IP3 25.5 dBm; Manufacturer: Mini-Circuits; PartNumber: MAR-4+; ComponentLink1Description: Product Page; ComponentLink1URL: https://www.minicircuits.com/WebStore/dashboard.html?model=MAR-4%2B; ComponentLink2Description: DataSheet; ComponentLink2URL: https://www.minicircuits.com/WebStore/dashboardPdf?model=MAR-4%2B
footprint MAR-4+ CASE VV105 (Mini-Circuits CASE VV105)
pins: 1 RFIN, 2 GND, 3 RFOUT/DCIN, 4 GND

## MGA-412P8
designator DA?
GaAs Enhancement-mode pHEMT Power Amplifier optimized for IEEE 802.11b/g applications; Manufacturer: Broadcom; PartNumber: MGA-412P8
footprint MGA-412P8 (Small Outline No-Lead (SON with Tab), 0.50 mm pitch; 8 pin, 2.00 mm L X 2.00 mm W X 0.80 mm H body)
pins: 1 GND, 2 RFin, 3 GND, 4 Vdd1, 5 PwrD, 6 Vdd2, 7 RFout, 8 Det, 9 GND

## MGA-16316
designator DA?
Dual LNA for Balanced Application 1950 – 4000 MHz; Manufacturer: Broadcom; PartNumber: MGA-16316
footprint QFN17P65_400X400X95L55X30T210N (Quad Flat No-Lead (QFN with Tab), 0.65 mm pitch; square, 4 pin X 4 pin, 4.00 mm L X 4.00 mm W X 0.95 mm H body)
pins: 1 RFIN1, 2 GND, 3 GND, 4 RFIN2, 5 Bias_out2, 6 Vsd2, 7 Bias_in2, 8 NC, 9 RFOUT2, 10 GND, 11 GND, 12 RFOUT1, 13 NC, 14 Bias_in1, 15 Vsd1, 16 Bias_out1, 17 GND

## MGA-43228
designator DA?
(2.3–2.5) GHz 29dBm High Linearity Wireless Data Power Amplifier; Manufacturer: Broadcom; PartNumber: MGA-43228
footprint QFN29P50_500X500X90L40X25T360N (Quad Flat No-Lead (QFN with Tab), 0.50 mm pitch; square, 7 pin X 7 pin, 5.00 mm L X 5.00 mm W X 0.90 mm H body)
pins: 1 NC, 2 NC, 3 NC, 4 RFIN, 5 NC, 6 NC, 7 VBYP, 8 VC1, 9 VC2, 10 VC3, 11 NC, 12 VDDBIAS, 13 NC, 14 VDET, 15 NC, 16 NC, 17 RFOUT, 18 RFOUT, 19 RFOUT, 20 NC, 21 NC, 22 VDD3, 23 VDD3, 24 VDD3, 25 NC, 26 VDD2, 27 GND, 28 VDD1, 29 GND

## MGA-64606
designator DA?
Low Noise Amplifi er with switchable Bypass/Shutdown Mode in Low Profi le Package; Manufacturer: Broadcom; PartNumber: MGA-64606
footprint PSON7P50_130X200X55L25X25T110N (Pullback Small Outline No-Lead (PSON with Tab), 0.50 mm pitch; 6 pin, 1.30 mm L X 2.00 mm W X 0.55 mm H body)
pins: 1 Vbias, 2 RFin, 3 GND, 4 Vdd, 5 RFout, 6 Vsd, 7 GND

## MMG3014NT1
designator DA?
Heterojunction Bipolar Transistor  Technology (InGaP HBT) Broadband High Linearity Amplifier; Manufacturer: NXP; PartNumber: MMG3014NT1; ComponentLink1Description: Product Page; ComponentLink1URL: https://www.nxp.com/part/MMG3014N#/; ComponentLink2Description: DataSheet; ComponentLink2URL: https://www.nxp.com/docs/en/data-sheet/MMG3014NT1.pdf
footprint SOT89-150P415X160-3N (SOT89, 3-Leads, Body 4.50x2.50mm, Pitch 1.50mm, Lead Span 4.1mm, IPC Medium Density)
pins: 1 RFIN, 2 GND, 3 RFOUT

## NJG1135MD7
designator DA?
Dual Band LNA; Manufacturer: Nisshinbo; PartNumber: NJG1135MD7; ComponentLink1Description: Product Page; ComponentLink1URL: https://www.nisshinbo-microdevices.co.jp/en/products/low-noise-amplifier/spec/?product=njg1135md7; ComponentLink2Description: DataSheet; ComponentLink2URL: https://www.nisshinbo-microdevices.co.jp/en/pdf/datasheet/NJG1135MD7_E.pdf
footprint NJG1135MD7
pins: 1 GND, 2 Vctrl2, 3 Vctrl1, 4 GND, 5 RFout1, 6 RFout2, 7 GND, 8 GND, 9 GND, 10 GND, 11 GND, 12 RFin2, 13 RFin1, 14 GND, 15 GND

## PHA-11+
designator DA?
Dual Matched Amplifier 50Ω .05 to 3 GHz; Manufacturer: Mini-Circuits; PartNumber: PHA-11+; ComponentLink1Description: Product Page; ComponentLink1URL: https://www.minicircuits.com/WebStore/dashboard.html?model=PHA-11%2B; ComponentLink2Description: DataSheet; ComponentLink2URL: https://www.minicircuits.com/WebStore/dashboardPdf?model=PHA-11%2B
footprint DL1020 (Mini-Circuits case DL1020)
pins: 1 RFIN, A1, 2 GND, 3 GND, 4 RFIN, A2, 5 RFOUT/DC, A2, 6 GND, 7 GND, 8 RFOUT/DC, A1, 9 GND

## PHA-13HLN+
designator DA?
Ultra High Dynamic RangeMonolithic Amplifier 50Ω 1MHz to 1 GHz; Manufacturer: Mini-Circuits; PartNumber: PHA-13HLN+; ComponentLink1Description: Product Page; ComponentLink1URL: https://www.minicircuits.com/WebStore/dashboard.html?model=PHA-13LN%2B; ComponentLink2Description: DataSheet; ComponentLink2URL: https://www.minicircuits.com/WebStore/dashboardPdf?model=PHA-13HLN%2B
footprint DF782 (Mini-Circuits case DF782)
pins: 1 RFIN, 2 GND, 3 RFOUT&DC

## PMA3-63GLN+
designator DA?
SMT Low Noise Amplifier, 1800 - 6000 MHz, 50Ω; Manufacturer: Mini-Circuits; PartNumber: PMA3-63GLN+; ComponentLink1Description: Product Page; ComponentLink1URL: https://www.minicircuits.com/WebStore/dashboard.html?model=PMA3-63GLN%2B; ComponentLink2Description: DataSheet; ComponentLink2URL: https://www.minicircuits.com/WebStore/dashboardPdf?model=PMA3-63GLN%2B
footprint QFN13P51_300X300X99L41X23T145N (Quad Flat No-Lead (QFN with Tab), 0.51 mm pitch; square, 3 pin X 3 pin, 3.00 mm L X 3.00 mm W X 0.99 mm H body)
pins: 1 NC, 2 RFIN, 3 NC, 4 NC, 5 NC, 6 NC, 7 NC, 8 RFOUT&DC, 9 NC, 10 NC, 11 NC, 12 NC, 13 GND

## PSA4-5043+
designator DA?, comment PSA-5043+
LOW NOISE, HIGH IP3, Monolithic Amplifier, 50Ω 0.05 to 4 GHz; Manufacturer: Mini-Circuits; PartNumber: PSA-5043+; ComponentLink1Description: Product Page; ComponentLink1URL: https://www.minicircuits.com/WebStore/dashboard.html?model=PSA4-5043%2B; ComponentLink2Description: DataSheet; ComponentLink2URL: https://www.minicircuits.com/WebStore/dashboardPdf?model=PSA4-5043%2B
footprint MMM1362 (Mini-Circuits CASE MMM1362)
pins: 1 RFOUT&DC, 2 GND, 3 RFIN, 4 GND

## QPA2213
designator DA?
2 – 20 GHz 2 Watt GaN Amplifier; Manufacturer: Qorvo; PartNumber: QPA2213; ComponentLink1Description: Product Page; ComponentLink1URL: https://www.qorvo.com/products/p/QPA2213; ComponentLink2Description: DataSheet; ComponentLink2URL: https://www.qorvo.com/products/d/da006580
footprint QPA2213 (Cu Based 4.5x4.5 Lamibate Package)
pins: 1 GND, 2 RFIN, 4 N/C, 6 N/C, 9 N/C, 11 N/C, 13 RFOUT, 15 N/C, 16 VD, 17 VD, 18 VG

## QPA7489A
designator DA?
DC – 3500 MHz Cascadable SiGe HBT Amplifier; Manufacturer: Qorvo; PartNumber: QPA7489A; ComponentLink1Description: Product Page; ComponentLink1URL: https://www.qorvo.com/products/p/QPA7489A; ComponentLink2Description: DataSheet; ComponentLink2URL: https://www.qorvo.com/products/d/da000268
footprint SOT89-150P355X160-3N (SOT89, 3-Leads, Body 4.50x2.50mm, Pitch 1.50mm, Lead Span 3.5mm, IPC Medium Density)
pins: 1 RFIN, 2 GND, 3 RFOUT

## QPA8840
designator DA?
50 - 1800 MHz, 22 dB Gain, 12 V, CATV Amplifier; Manufacturer: Qorvo; PartNumber: QPA8840; ComponentLink1Description: Product Page; ComponentLink1URL: https://www.qorvo.com/products/p/QPA8840; ComponentLink2Description: DataSheet; ComponentLink2URL: https://www.qorvo.com/products/d/da008264
footprint QPA8840 (SON, 12-Leads, Body 6.00x6.00mm, Pitch 1.00mm, Thermal Pad 5.30x4.35mm, IPC Medium Density)
pins: 1 VLIN, 2 RIN1, 3 GND, 4 GND, 5 RIN2, 6 IADJ, 7 ISENSE, 8 ROUT2, 9 VG2, 10 NC, 11 ROUT1, 12 NC, 13 GND

## QPD1011
designator DA?
30 – 1200 MHz, 50 V, 7 W GaN RF Input-Matched Transistor; Manufacturer: Qorvo; PartNumber: QPD1011; ComponentLink1Description: Product Page; ComponentLink1URL: https://www.qorvo.com/products/p/QPD1011; ComponentLink2Description: DataSheet; ComponentLink2URL: https://www.qorvo.com/products/d/da006136
footprint SON9P127_500X600X90L59X63T444X396N (Small Outline No-Lead (SON with Tab), 1.27 mm pitch; 8 pin, 5.00 mm L X 6.00 mm W X 0.90 mm H body)
pins: 1 Vg, 2 RFIN, 3 RFIN, 4 NC, 5 NC, 6 RFOUT/Vd, 7 RFOUT/Vd, 8 NC, 9 Source

## QPL1240
designator DA?
5 - 1218 MHz, 17 dB Gain Differential CATV Amplifier; Manufacturer: Qorvo; PartNumber: QPL1240; ComponentLink1Description: Product Page; ComponentLink1URL: https://www.qorvo.com/products/p/QPL1240; ComponentLink2Description: DataSheet; ComponentLink2URL: https://www.qorvo.com/products/d/da008515
footprint SOIC9P127_490X600X173L75X42T330X240N (Small Outline IC (SOIC with Tab), 1.27 mm pitch; 8 pin, 4.90 mm L X 3.905 mm W X 1.73 mm H body)
pins: 1 RFIN+, 2 N/C, 3 N/C, 4 RFIN-, 5 RFOUT-, 6 N/C, 7 N/C, 8 RFOUT+, 9 GND

## QPL7420
designator DA?
75 Ω 20 dB CATV Amplifier 5 – 1800 MHz; Manufacturer: Qorvo; PartNumber: QPL7420; ComponentLink1Description: Product Page; ComponentLink1URL: https://www.qorvo.com/products/p/QPL7420; ComponentLink2Description: DataSheet; ComponentLink2URL: https://www.qorvo.com/products/d/da008608
footprint QFN17P50_300X300X90L30X25T170N (Quad Flat No-Lead (QFN with Tab), 0.50 mm pitch; square, 4 pin X 4 pin, 3.00 mm L X 3.00 mm W X 0.90 mm H body)
pins: 1 GND, 2 GND, 3 GND, 4 RFIN, 5 GND, 6 GND, 7 GND, 8 GND, 9 RFOUT, 10 GND, 11 GND, 12 GND, 13 GND, 14 GND, 15 GND, 16 GND, 17 GND

## QPM1000
designator DA?
2 -20 GHz Limiter/Low-Noise Amplifier; Manufacturer: Qorvo; PartNumber: QPM1000; ComponentLink1Description: Product Page; ComponentLink1URL: https://www.qorvo.com/products/p/QPM1000; ComponentLink2Description: DataSheet; ComponentLink2URL: https://www.qorvo.com/products/d/da003672
footprint QPM1000
pins: 1 GND, 2 RFIN, 3 GND, 4 NC, 5 NC, 6 NC, 7 NC, 8 NC, 9 VG1, 10 GND, 11 RFOUT, 12 GND, 13 NC, 14 VD, 15 NC, 16 NC, 17 VG2, 18 NC, 19 GND

## RF3220
designator DA?
LOW NOISE, LINEAR AMPLIFIER  HIGH LINEARITY/DRIVER AMPLIFIER; Manufacturer: Qorvo; PartNumber: RF3220; ComponentLink1Description: Product Page; ComponentLink1URL: https://www.qorvo.com/products/p/RF3220; ComponentLink2Description: DataSheet; ComponentLink2URL: https://www.qorvo.com/products/d/da000424
footprint RF3220 (RFMD RF3220)
pins: 1 GND, 2 RFIN, 3 GND, 4 GND, 5 GND, 6 GND, 7 GND, 8 RFOUT, 9 GND, 10 GND, 11 BIAS, 12 GND, 13 GND

## SE5004L
designator DA?
5 GHz, 26dBm Power Amplifier with Power Detector; Manufacturer: Skyworks; PartNumber: SE5004L; ComponentLink1Description: Product Page; ComponentLink1URL: https://www.skyworksinc.com/en/Products/Amplifiers/SE5004L; ComponentLink2Description: DataSheet; ComponentLink2URL: https://www.skyworksinc.com/-/media/SkyWorks/Documents/Products/601-700/SE5004L_202393B.pdf
footprint QFN21P50_400X400X90L50X25T250N (Quad Flat No-Lead (QFN with Tab), 0.50 mm pitch; square, 5 pin X 5 pin, 4.00 mm L X 4.00 mm W X 0.90 mm H body)
pins: 1 NU, 2 GND, 3 RFIN, 4 GND, 5 VREF, 6 SP1, 7 SP2, 8 VCC2, 9 VCC3, 10 DET, 11 GND, 12 GND, 13 RFOUT, 14 GND, 15 GND, 16 GND, 17 GND, 18 VCC3, 19 VCC2, 20 VCC1, 21 GND

## SKY65162-70LF
designator DA?
400-2700 MHz Linear Power Amplifier; Manufacturer: Skyworks; PartNumber: SKY65162-70LF; ComponentLink1Description: Product Page; ComponentLink1URL: https://www.skyworksinc.com/en/Products/Amplifiers/SKY65162-70LF; ComponentLink2Description: DataSheet; ComponentLink2URL: https://www.skyworksinc.com/-/media/SkyWorks/Documents/Products/401-500/SKY65162_70LF_201212K.pdf
footprint DPAK4P150_409X160L104X55T250X175N (DPAK, 1.50 mm pitch; 3 pin, 2.44 mm L X 4.50 mm W X 1.60 mm H body)
pins: 1 RFIN, 2 GND, 3 RFOUT

## SKY65386-11
designator DA?
2575 to 2735 MHz Variable Gain Amplifier; Manufacturer: Skyworks; PartNumber: SKY65386-11; ComponentLink1Description: Product Page; ComponentLink1URL: https://www.skyworksinc.com/en/Products/Amplifiers/SKY65386-11; ComponentLink2Description: DataSheet; ComponentLink2URL: https://www.skyworksinc.com/-/media/SkyWorks/Documents/Products/1601-1700/SKY65386_11_201729E_Discontinued.pdf
footprint PQFN165P869X869X145_HS-13N (PQFN, 12-Leads, Body 8.69x8.69mm, Pitch 1.65mm/1.91mm, Thermal Pad 4.87x4.87mm, IPC Medium Density)
pins: 1 RFIN, 2 GND, 3 VCTRL, 4 GND, 5 GND, 6 GND, 7 GND, 8 RFOUT, 9 GND, 10 VCC_AMP2, 11 VCC_AMP1, 12 GND, 13 GND

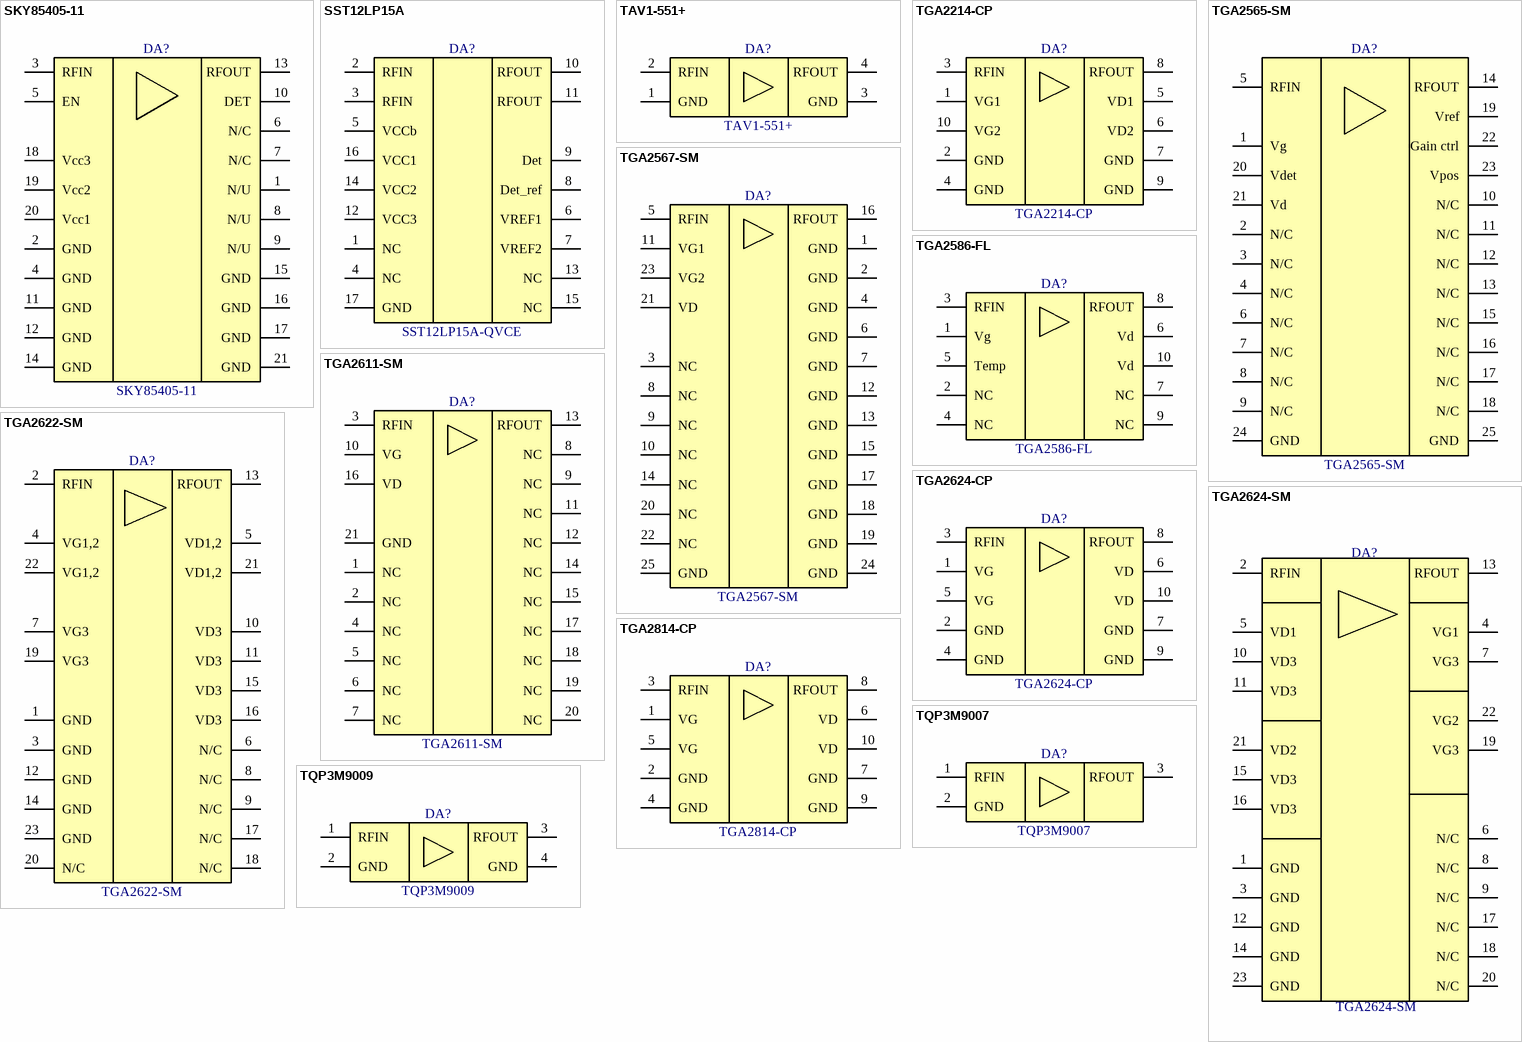
[diagram p4: symbols SKY85405-11 to TQP3M9009]

## SKY85405-11
designator DA?
High-Power Power Amplifier with Integrated Power Detector; Manufacturer: Skyworks; ComponentLink1Description: Product Page; ComponentLink1URL: https://www.skyworksinc.com/en/Products/Amplifiers/SKY85405-11; ComponentLink2Description: DataSheet; ComponentLink2URL: https://www.skyworksinc.com/-/media/SkyWorks/Documents/Products/2201-2300/SKY85405_11_PS_203617A.pdf; ComponentLink3Description: Appnote 1; ComponentLink3URL: https://www.skyworksinc.com/-/media/SkyWorks/Documents/Products/2201-2300/SKY85405_11_203840A_AN.pdf; PartNumber: SKY85405-11
footprint PQFN50P400X400X100_HS-21N (PQFN, 20-Leads, Body 4,00x4,00mm, Pitch 0,50mm, Thermal Pad 2,10x2,10mm, IPC Medium Density)
pins: 1 N/U, 2 GND, 3 RFIN, 4 GND, 5 EN, 6 N/C, 7 N/C, 8 N/U, 9 N/U, 10 DET, 11 GND, 12 GND, 13 RFOUT, 14 GND, 15 GND, 16 GND, 17 GND, 18 Vcc3, 19 Vcc2, 20 Vcc1, 21 GND

## SST12LP15A
designator DA?, comment SST12LP15A-QVCE
2.4 GHz High-Power and High-Gain Power Amplifier; Manufacturer: Microchip; PartNumber: SST12LP15A-QVCE; ComponentLink1Description: Product Page; ComponentLink1URL: https://www.microchip.com/en-us/product/SST12LP15A; ComponentLink2Description: DataSheet; ComponentLink2URL: https://ww1.microchip.com/downloads/aemDocuments/documents/OTH/ProductDocuments/DataSheets/75056A.pdf
footprint QFN17P50_300X300X100L40X24T170N (Quad Flat No-Lead (QFN with Tab), 0.50 mm pitch; square, 4 pin X 4 pin, 3.00 mm L X 3.00 mm W X 1.00 mm H body)
pins: 1 NC, 2 RFIN, 3 RFIN, 4 NC, 5 VCCb, 6 VREF1, 7 VREF2, 8 Det_ref, 9 Det, 10 RFOUT, 11 RFOUT, 12 VCC3, 13 NC, 14 VCC2, 15 NC, 16 VCC1, 17 GND

## TAV1-551+
designator DA?
E-PHEMT Transistor 50Ω 0.045 to 6 GHz; Manufacturer: Mini-Circuits; PartNumber: TAV1-551+; ComponentLink1Description: Product Page; ComponentLink1URL: https://www.minicircuits.com/WebStore/dashboard.html?model=TAV1-551%2B; ComponentLink2Description: DataSheet; ComponentLink2URL: https://www.minicircuits.com/WebStore/dashboardPdf?model=TAV1-551%2B
footprint TE2769 (Mini-Circuits case TE2769)
pins: 1 GND, 2 RFIN, 3 GND, 4 RFOUT

## TGA2214-CP
designator DA?
2 – 18 GHz 4 W GaN Power Amplifier; Manufacturer: Qorvo; PartNumber: TGA2214-CP; ComponentLink1Description: Product Page; ComponentLink1URL: https://www.qorvo.com/products/p/TGA2214-CP; ComponentLink2Description: DataSheet; ComponentLink2URL: https://www.qorvo.com/products/d/da003927
footprint TGA2214-CP (10-lead 15x15 mm  bolt-down package with a Cu base)
pins: 1 VG1, 2 GND, 3 RFIN, 4 GND, 5 VD1, 6 VD2, 7 GND, 8 RFOUT, 9 GND, 10 VG2

## TGA2565-SM
designator DA?
Medium Power Amplifier, 11-17 GHz; Manufacturer: Qorvo; PartNumber: TGA2565-SM; ComponentLink1Description: Product Page; ComponentLink1URL: https://www.qorvo.com/products/p/TGA2565-SM; ComponentLink2Description: DataSheet; ComponentLink2URL: https://www.qorvo.com/products/d/da004100
footprint PQFN50P400X400X90_HS-25N (PQFN, 24-Leads, Body 4,00x4,00mm, Pitch 0,50mm, Thermal Pad 2,60x2,60mm, IPC Medium Density)
pins: 1 Vg, 2 N/C, 3 N/C, 4 N/C, 5 RFIN, 6 N/C, 7 N/C, 8 N/C, 9 N/C, 10 N/C, 11 N/C, 12 N/C, 13 N/C, 14 RFOUT, 15 N/C, 16 N/C, 17 N/C, 18 N/C, 19 Vref, 20 Vdet, 21 Vd, 22 Gain ctrl, 23 Vpos, 24 GND, 25 GND

## TGA2567-SM
designator DA?
2-20 GHz LNA Amplifier; Manufacturer: Qorvo; PartNumber: TGA2567-SM; ComponentLink1Description: Product Page; ComponentLink1URL: https://www.qorvo.com/products/p/TGA2567-SM; ComponentLink2Description: DataSheet; ComponentLink2URL: https://www.qorvo.com/products/d/da004103
footprint TGA2567-SM (Qorvo TGA-2567-SM)
pins: 1 GND, 2 GND, 3 NC, 4 GND, 5 RFIN, 6 GND, 7 GND, 8 NC, 9 NC, 10 NC, 11 VG1, 12 GND, 13 GND, 14 NC, 15 GND, 16 RFOUT, 17 GND, 18 GND, 19 GND, 20 NC, 21 VD, 22 NC, 23 VG2, 24 GND, 25 GND

## TGA2586-FL
designator DA?
7.9 – 8.4 GHz 50W GaN Power Amplifier; Manufacturer: Qorvo; PartNumber: TGA2586-FL; ComponentLink1Description: Product Page; ComponentLink1URL: https://www.qorvo.com/products/p/TGA2586-FL; ComponentLink2Description: DataSheet; ComponentLink2URL: https://www.qorvo.com/products/d/da004158
footprint TGA2586-FL (10 pin CuW-base, flanged  package)
pins: 1 Vg, 2 NC, 3 RFIN, 4 NC, 5 Temp, 6 Vd, 7 NC, 8 RFOUT, 9 NC, 10 Vd

## TGA2611-SM
designator DA?
2-6 GHz GaN LNA; Manufacturer: Qorvo; PartNumber: TGA2611-SM; ComponentLink1Description: Product Page; ComponentLink1URL: https://www.qorvo.com/products/p/TGA2611-SM; ComponentLink2Description: DataSheet; ComponentLink2URL: https://www.qorvo.com/products/d/da004221
footprint QFN21P50_400X400X90L40X25T270N (Quad Flat No-Lead (QFN with Tab), 0.50 mm pitch; square, 5 pin X 5 pin, 4.00 mm L X 4.00 mm W X 0.90 mm H body)
pins: 1 NC, 2 NC, 3 RFIN, 4 NC, 5 NC, 6 NC, 7 NC, 8 NC, 9 NC, 10 VG, 11 NC, 12 NC, 13 RFOUT, 14 NC, 15 NC, 16 VD, 17 NC, 18 NC, 19 NC, 20 NC, 21 GND

## TGA2622-SM
designator DA?
9 – 10 GHz 35 Watt GaN Power Amplifier; Manufacturer: Qorvo; PartNumber: TGA2622-SM; ComponentLink1Description: Product Page; ComponentLink1URL: https://www.qorvo.com/products/p/TGA2622-SM; ComponentLink2Description: DataSheet; ComponentLink2URL: https://www.qorvo.com/products/d/da004272
footprint TGA2622-SM (Qorvo 7x7x1.75 mm Pullback QFN 22L)
pins: 1 GND, 2 RFIN, 3 GND, 4 VG1,2, 5 VD1,2, 6 N/C, 7 VG3, 8 N/C, 9 N/C, 10 VD3, 11 VD3, 12 GND, 13 RFOUT, 14 GND, 15 VD3, 16 VD3, 17 N/C, 18 N/C, 19 VG3, 20 N/C, 21 VD1,2, 22 VG1,2, 23 GND

## TGA2624-CP
designator DA?
9 to 10 GHz, 16 W GaN Power Amplifier; Manufacturer: Qorvo; PartNumber: TGA2624-CP; ComponentLink1Description: Product Page; ComponentLink1URL: https://www.qorvo.com/products/p/TGA2624-CP; ComponentLink2Description: DataSheet; ComponentLink2URL: https://www.qorvo.com/products/d/da004288
footprint TGA2624-CP (10-lead 15x15 mm  bolt-down package with a Cu base)
pins: 1 VG, 2 GND, 3 RFIN, 4 GND, 5 VG, 6 VD, 7 GND, 8 RFOUT, 9 GND, 10 VD

## TGA2624-SM
designator DA?
9 - 10 GHz, 20 Watt GaN Power Amplifier; Manufacturer: Qorvo; PartNumber: TGA2624-SM; ComponentLink1Description: Product Page; ComponentLink1URL: https://www.qorvo.com/products/p/TGA2624-SM; ComponentLink2Description: DataSheet; ComponentLink2URL: https://www.qorvo.com/products/d/da004292
footprint TGA2624-SM (Qorvo TGA2624-SM QFN 7 x 7 x 1.7 mm)
pins: 1 GND, 2 RFIN, 3 GND, 4 VG1, 5 VD1, 6 N/C, 7 VG3, 8 N/C, 9 N/C, 10 VD3, 11 VD3, 12 GND, 13 RFOUT, 14 GND, 15 VD3, 16 VD3, 17 N/C, 18 N/C, 19 VG3, 20 N/C, 21 VD2, 22 VG2, 23 GND